# Altium integrated library Altera APEX 20K.IntLib: 93 symbols (part 2 of 14)
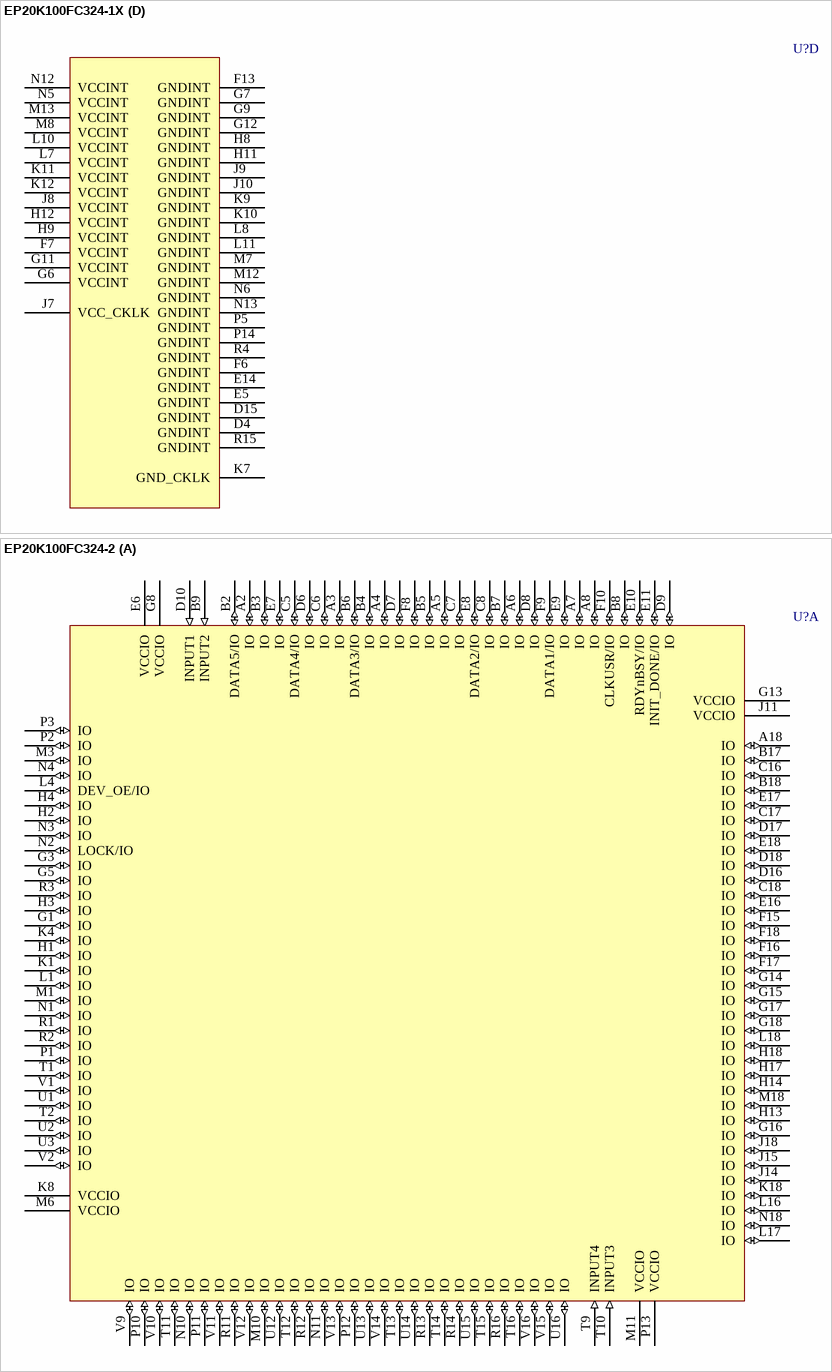
[diagram p203: symbols EP20K100FC324-1X to EP20K100FC324-2]

## EP20K100FC324-1X
designator U?
APEX 20K100 PLD with PLLs, 324-Pin FBGA, Commercial Grade, Speed Grade 1; Published: 17-Jul-2002; LatestRevisionDate: 13-Apr-2006; LatestRevisionNote: IPC-7351 Footprint Added.; DatasheetVersion: ver5.1, Mar-2004; PackageVersion: ver16.0, Dec-2009; PackageReference: FBGA324; Publisher: Altium Limited; PackageDescription: 324-Ball FineLine Ball Grid Array (FBGA324) - Wire Bond; Code_JEDEC: MS-034-AAG-1; Code_IPC: BGA100P18X18-324; ComponentLink1Description: Manufacturer Link; ComponentLink1URL: http://www.altera.com/products/devices/apex/apx-index.html; ComponentLink2Description: Datasheet; ComponentLink2URL: http://www.altera.com/literature/ds/apex.pdf
footprint FBGA324 (BGA, 324-Leads, Body 19x19mm, Pitch 1mm)
3D model EP20K100-FBGA324 (324-Ball FineLine Ball Grid Array (FBGA324) - Wire Bond)
part A pins: A2 IO (io), A3 IO (io), A4 IO (io), A5 IO (io), A6 IO (io), A7 IO (io), A8 IO (io), A18 IO (io), B2 DATA5/IO (io), B3 IO (io), B4 IO (io), B5 IO (io), B6 DATA3/IO (io), B7 IO (io), B8 IO (io), B9 INPUT2 (in), B17 IO (io), B18 IO (io), C5 DATA4/IO (io), C6 IO (io), C7 IO (io), C8 IO (io), C16 IO (io), C17 IO (io), C18 IO (io), D6 IO (io), D7 IO (io), D8 IO (io), D9 IO (io), D10 INPUT1 (in), D16 IO (io), D17 IO (io), D18 IO (io), E6 VCCIO (power), E7 IO (io), E8 DATA2/IO (io), E9 IO (io), E10 RDYnBSY/IO (io), E11 INIT_DONE/IO (io), E16 IO (io), E17 IO (io), E18 IO (io), F8 IO (io), F9 DATA1/IO (io), F10 CLKUSR/IO (io), F15 IO (io), F16 IO (io), F17 IO (io), F18 IO (io), G1 IO (io), G3 IO (io), G5 IO (io), G8 VCCIO (power), G13 VCCIO (power), G14 IO (io), G15 IO (io), G16 IO (io), G17 IO (io), G18 IO (io), H1 IO (io), H2 IO (io), H3 IO (io), H4 IO (io), H13 IO (io), H14 IO (io), H17 IO (io), H18 IO (io), J11 VCCIO (power), J14 IO (io), J15 IO (io), J18 IO (io), K1 IO (io), K4 IO (io), K8 VCCIO (power), K18 IO (io), L1 IO (io), L4 DEV_OE/IO (io), L16 IO (io), L17 IO (io), L18 IO (io), M1 IO (io), M3 IO (io), M6 VCCIO (power), M10 IO (io), M11 VCCIO (power), M18 IO (io), N1 IO (io), N2 LOCK/IO (io), N3 IO (io), N4 IO (io), N10 IO (io), N11 IO (io), N18 IO (io), P1 IO (io), P2 IO (io), P3 IO (io), P10 IO (io), P11 IO (io), P12 IO (io), P13 VCCIO (power), R1 IO (io), R2 IO (io), R3 IO (io), R11 IO (io), R12 IO (io), R13 IO (io), R14 IO (io), R16 IO (io), T1 IO (io), T2 IO (io), T9 INPUT4 (in), T10 INPUT3 (in), T11 IO (io), T12 IO (io), T13 IO (io), T14 IO (io), T15 IO (io), T16 IO (io), U1 IO (io), U2 IO (io), U3 IO (io), U12 IO (io), U13 IO (io), U14 IO (io), U15 IO (io), U16 IO (io), V1 IO (io), V2 IO (io), V9 IO (io), V10 IO (io), V11 IO (io), V12 IO (io), V13 IO (io), V14 IO (io), V15 IO (io), V16 IO (io)
part B pins: A1 IO (io), A9 IO (io), A10 IO (io), A11 IO (io), A12 IO (io), A13 IO (io), A14 IO (io), A15 IO (io), A16 IO (io), A17 IO (io), B1 IO (io), B11 IO (io), B12 IO (io), B13 IO (io), B14 IO (io), B15 IO (io), B16 IO (io), C1 IO (io), C2 IO (io), C3 IO (io), C4 IO (io), C11 IO (io), C12 IO (io), C13 IO (io), C14 IO (io), C15 IO (io), D1 IO (io), D2 IO (io), D3 IO (io), D5 IO (io), D11 IO (io), D12 IO (io), D13 IO (io), D14 IO (io), E1 IO (io), E2 IO (io), E3 IO (io), E4 IO (io), E12 IO (io), E13 IO (io), E15 IO (io), F1 IO (io), F2 IO (io), F3 IO (io), F4 IO (io), F5 VCCIO (power), F11 IO (io), F12 VCCIO (power), F14 IO (io), G2 IO (io), G4 DATA6/IO (io), G10 IO (io), H5 nCS/IO (io), H6 DATA7/IO (io), H7 VCCIO (power), H10 VCCIO (power), H15 IO (io), H16 IO (io), J1 IO (io), J4 CLK2 (in), J5 IO (io), J6 nRS/IO (io), J12 IO (io), J13 IO (io), K5 nWS/IO (io), K6 IO (io), K13 IO (io), K14 IO (io), K15 IO (io), K16 CLK1 (in), L2 IO (io), L3 IO (io), L5 DEV_CLRn/IO (io), L6 IO (io), L9 VCCIO (power), L12 VCCIO (power), L13 IO (io), L14 IO (io), L15 IO (io), M2 CS/IO (io), M4 IO (io), M5 IO (io), M9 IO (io), M14 IO (io), M15 IO (io), M16 IO (io), M17 IO (io), N7 VCCIO (power), N8 IO (io), N9 IO (io), N14 VCCIO (power), N15 IO (io), N16 IO (io), N17 IO (io), P4 IO (io), P6 VCCIO (power), P7 IO (io), P8 IO (io), P9 IO (io), P15 IO (io), P16 IO (io), P17 IO (io), P18 IO (io), R5 IO (io), R6 IO (io), R7 IO (io), R8 IO (io), R9 IO (io), R10 IO (io), R17 IO (io), R18 IO (io), T3 IO (io), T4 IO (io), T5 IO (io), T6 IO (io), T7 IO (io), T8 IO (io), T17 IO (io), T18 IO (io), U4 IO (io), U5 IO (io), U6 IO (io), U7 IO (io), U17 IO (io), U18 IO (io), V3 IO (io), V4 IO (io), V5 IO (io), V6 IO (io), V7 IO (io), V8 IO (io), V17 IO (io), V18 IO (io)
part C pins: B10 TRST (in), C9 TDO (out), C10 nCEO (out), J2 DATA0 (in), J3 DCLK (in), J16 MSEL1 (in), J17 MSEL0 (in), K2 nCE (in), K3 TDI (in), K17 nCONFIG (in), U8 CONF_DONE (in), U9 nSTATUS (in), U10 TCK (in), U11 TMS (in)
part D pins: D4 GNDINT (power), D15 GNDINT (power), E5 GNDINT (power), E14 GNDINT (power), F6 GNDINT (power), F7 VCCINT (power), F13 GNDINT (power), G6 VCCINT (power), G7 GNDINT (power), G9 GNDINT (power), G11 VCCINT (power), G12 GNDINT (power), H8 GNDINT (power), H9 VCCINT (power), H11 GNDINT (power), H12 VCCINT (power), J7 VCC_CKLK (power), J8 VCCINT (power), J9 GNDINT (power), J10 GNDINT (power), K7 GND_CKLK (power), K9 GNDINT (power), K10 GNDINT (power), K11 VCCINT (power), K12 VCCINT (power), L7 VCCINT (power), L8 GNDINT (power), L10 VCCINT (power), L11 GNDINT (power), M7 GNDINT (power), M8 VCCINT (power), M12 GNDINT (power), M13 VCCINT (power), N5 VCCINT (power), N6 GNDINT (power), N12 VCCINT (power), N13 GNDINT (power), P5 GNDINT (power), P14 GNDINT (power), R4 GNDINT (power), R15 GNDINT (power)

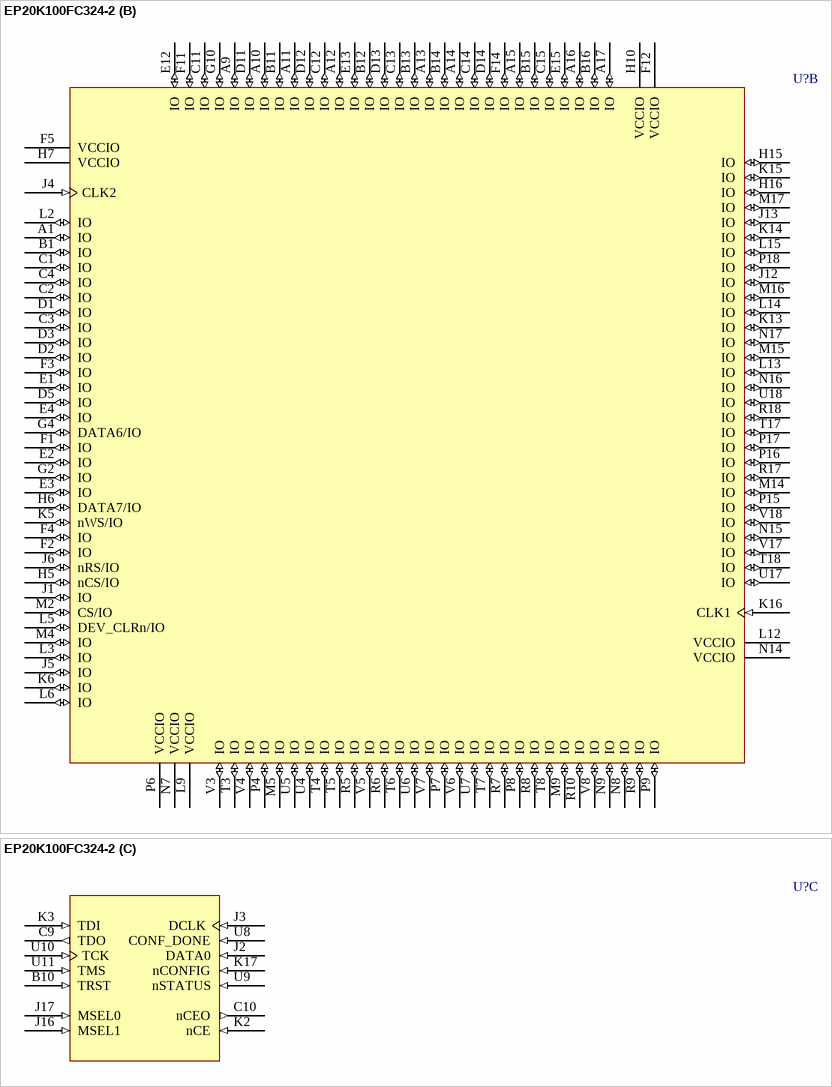
[diagram p13: symbol EP20K100FC324-2]

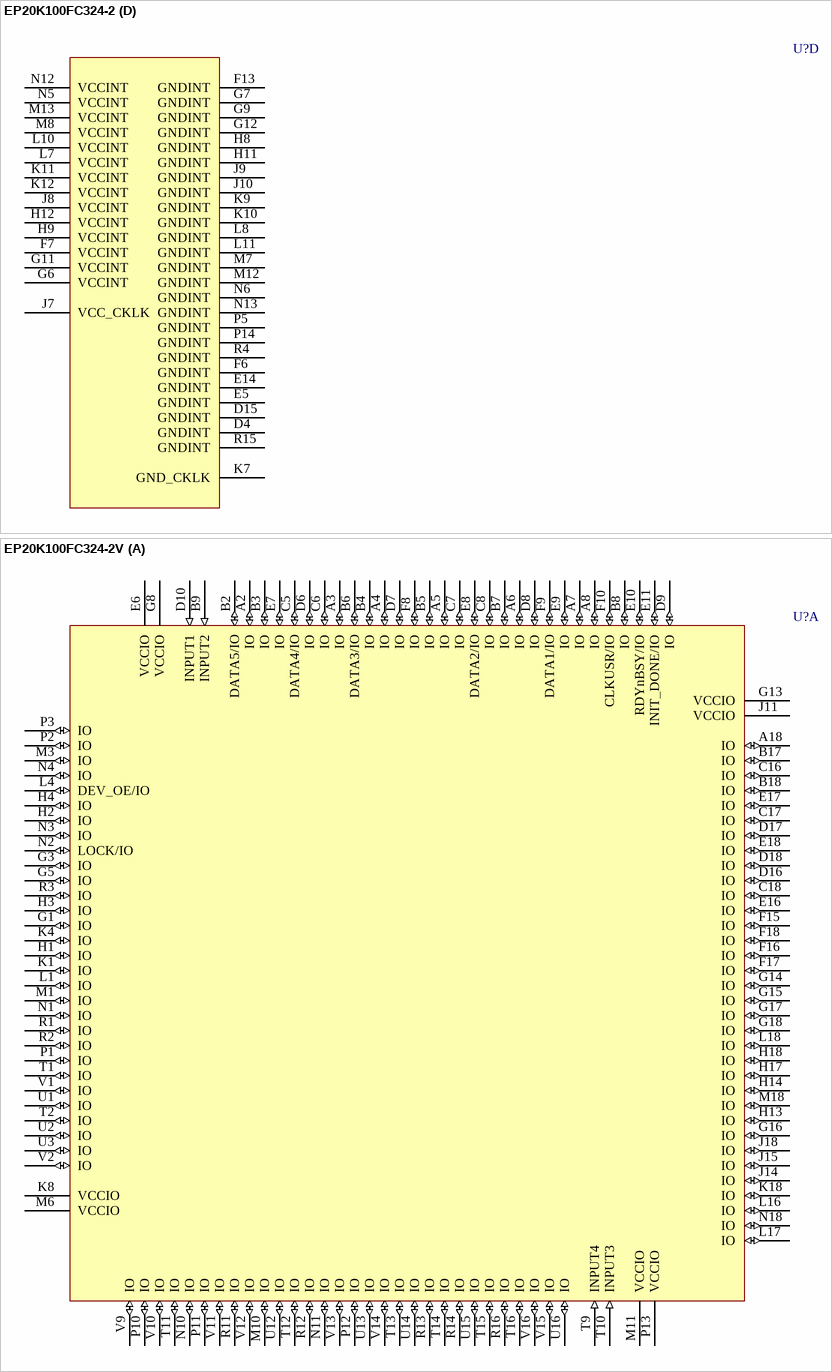
[diagram p14: symbols EP20K100FC324-2 to EP20K100FC324-2V]

## EP20K100FC324-2
designator U?
APEX 20K100 PLD, 324-Pin FBGA, Commercial Grade, Speed Grade 2; Published: 17-Jul-2002; LatestRevisionDate: 13-Apr-2006; LatestRevisionNote: IPC-7351 Footprint Added.; DatasheetVersion: ver5.1, Mar-2004; PackageVersion: ver16.0, Dec-2009; PackageReference: FBGA324; Publisher: Altium Limited; PackageDescription: 324-Ball FineLine Ball Grid Array (FBGA324) - Wire Bond; Code_JEDEC: MS-034-AAG-1; Code_IPC: BGA100P18X18-324; ComponentLink1Description: Manufacturer Link; ComponentLink1URL: http://www.altera.com/products/devices/apex/apx-index.html; ComponentLink2Description: Datasheet; ComponentLink2URL: http://www.altera.com/literature/ds/apex.pdf
footprint FBGA324 (BGA, 324-Leads, Body 19x19mm, Pitch 1mm)
3D model EP20K100-FBGA324 (324-Ball FineLine Ball Grid Array (FBGA324) - Wire Bond)
part A pins: A2 IO (io), A3 IO (io), A4 IO (io), A5 IO (io), A6 IO (io), A7 IO (io), A8 IO (io), A18 IO (io), B2 DATA5/IO (io), B3 IO (io), B4 IO (io), B5 IO (io), B6 DATA3/IO (io), B7 IO (io), B8 IO (io), B9 INPUT2 (in), B17 IO (io), B18 IO (io), C5 DATA4/IO (io), C6 IO (io), C7 IO (io), C8 IO (io), C16 IO (io), C17 IO (io), C18 IO (io), D6 IO (io), D7 IO (io), D8 IO (io), D9 IO (io), D10 INPUT1 (in), D16 IO (io), D17 IO (io), D18 IO (io), E6 VCCIO (power), E7 IO (io), E8 DATA2/IO (io), E9 IO (io), E10 RDYnBSY/IO (io), E11 INIT_DONE/IO (io), E16 IO (io), E17 IO (io), E18 IO (io), F8 IO (io), F9 DATA1/IO (io), F10 CLKUSR/IO (io), F15 IO (io), F16 IO (io), F17 IO (io), F18 IO (io), G1 IO (io), G3 IO (io), G5 IO (io), G8 VCCIO (power), G13 VCCIO (power), G14 IO (io), G15 IO (io), G16 IO (io), G17 IO (io), G18 IO (io), H1 IO (io), H2 IO (io), H3 IO (io), H4 IO (io), H13 IO (io), H14 IO (io), H17 IO (io), H18 IO (io), J11 VCCIO (power), J14 IO (io), J15 IO (io), J18 IO (io), K1 IO (io), K4 IO (io), K8 VCCIO (power), K18 IO (io), L1 IO (io), L4 DEV_OE/IO (io), L16 IO (io), L17 IO (io), L18 IO (io), M1 IO (io), M3 IO (io), M6 VCCIO (power), M10 IO (io), M11 VCCIO (power), M18 IO (io), N1 IO (io), N2 LOCK/IO (io), N3 IO (io), N4 IO (io), N10 IO (io), N11 IO (io), N18 IO (io), P1 IO (io), P2 IO (io), P3 IO (io), P10 IO (io), P11 IO (io), P12 IO (io), P13 VCCIO (power), R1 IO (io), R2 IO (io), R3 IO (io), R11 IO (io), R12 IO (io), R13 IO (io), R14 IO (io), R16 IO (io), T1 IO (io), T2 IO (io), T9 INPUT4 (in), T10 INPUT3 (in), T11 IO (io), T12 IO (io), T13 IO (io), T14 IO (io), T15 IO (io), T16 IO (io), U1 IO (io), U2 IO (io), U3 IO (io), U12 IO (io), U13 IO (io), U14 IO (io), U15 IO (io), U16 IO (io), V1 IO (io), V2 IO (io), V9 IO (io), V10 IO (io), V11 IO (io), V12 IO (io), V13 IO (io), V14 IO (io), V15 IO (io), V16 IO (io)
part B pins: A1 IO (io), A9 IO (io), A10 IO (io), A11 IO (io), A12 IO (io), A13 IO (io), A14 IO (io), A15 IO (io), A16 IO (io), A17 IO (io), B1 IO (io), B11 IO (io), B12 IO (io), B13 IO (io), B14 IO (io), B15 IO (io), B16 IO (io), C1 IO (io), C2 IO (io), C3 IO (io), C4 IO (io), C11 IO (io), C12 IO (io), C13 IO (io), C14 IO (io), C15 IO (io), D1 IO (io), D2 IO (io), D3 IO (io), D5 IO (io), D11 IO (io), D12 IO (io), D13 IO (io), D14 IO (io), E1 IO (io), E2 IO (io), E3 IO (io), E4 IO (io), E12 IO (io), E13 IO (io), E15 IO (io), F1 IO (io), F2 IO (io), F3 IO (io), F4 IO (io), F5 VCCIO (power), F11 IO (io), F12 VCCIO (power), F14 IO (io), G2 IO (io), G4 DATA6/IO (io), G10 IO (io), H5 nCS/IO (io), H6 DATA7/IO (io), H7 VCCIO (power), H10 VCCIO (power), H15 IO (io), H16 IO (io), J1 IO (io), J4 CLK2 (in), J5 IO (io), J6 nRS/IO (io), J12 IO (io), J13 IO (io), K5 nWS/IO (io), K6 IO (io), K13 IO (io), K14 IO (io), K15 IO (io), K16 CLK1 (in), L2 IO (io), L3 IO (io), L5 DEV_CLRn/IO (io), L6 IO (io), L9 VCCIO (power), L12 VCCIO (power), L13 IO (io), L14 IO (io), L15 IO (io), M2 CS/IO (io), M4 IO (io), M5 IO (io), M9 IO (io), M14 IO (io), M15 IO (io), M16 IO (io), M17 IO (io), N7 VCCIO (power), N8 IO (io), N9 IO (io), N14 VCCIO (power), N15 IO (io), N16 IO (io), N17 IO (io), P4 IO (io), P6 VCCIO (power), P7 IO (io), P8 IO (io), P9 IO (io), P15 IO (io), P16 IO (io), P17 IO (io), P18 IO (io), R5 IO (io), R6 IO (io), R7 IO (io), R8 IO (io), R9 IO (io), R10 IO (io), R17 IO (io), R18 IO (io), T3 IO (io), T4 IO (io), T5 IO (io), T6 IO (io), T7 IO (io), T8 IO (io), T17 IO (io), T18 IO (io), U4 IO (io), U5 IO (io), U6 IO (io), U7 IO (io), U17 IO (io), U18 IO (io), V3 IO (io), V4 IO (io), V5 IO (io), V6 IO (io), V7 IO (io), V8 IO (io), V17 IO (io), V18 IO (io)
part C pins: B10 TRST (in), C9 TDO (out), C10 nCEO (out), J2 DATA0 (in), J3 DCLK (in), J16 MSEL1 (in), J17 MSEL0 (in), K2 nCE (in), K3 TDI (in), K17 nCONFIG (in), U8 CONF_DONE (in), U9 nSTATUS (in), U10 TCK (in), U11 TMS (in)
part D pins: D4 GNDINT (power), D15 GNDINT (power), E5 GNDINT (power), E14 GNDINT (power), F6 GNDINT (power), F7 VCCINT (power), F13 GNDINT (power), G6 VCCINT (power), G7 GNDINT (power), G9 GNDINT (power), G11 VCCINT (power), G12 GNDINT (power), H8 GNDINT (power), H9 VCCINT (power), H11 GNDINT (power), H12 VCCINT (power), J7 VCC_CKLK (power), J8 VCCINT (power), J9 GNDINT (power), J10 GNDINT (power), K7 GND_CKLK (power), K9 GNDINT (power), K10 GNDINT (power), K11 VCCINT (power), K12 VCCINT (power), L7 VCCINT (power), L8 GNDINT (power), L10 VCCINT (power), L11 GNDINT (power), M7 GNDINT (power), M8 VCCINT (power), M12 GNDINT (power), M13 VCCINT (power), N5 VCCINT (power), N6 GNDINT (power), N12 VCCINT (power), N13 GNDINT (power), P5 GNDINT (power), P14 GNDINT (power), R4 GNDINT (power), R15 GNDINT (power)

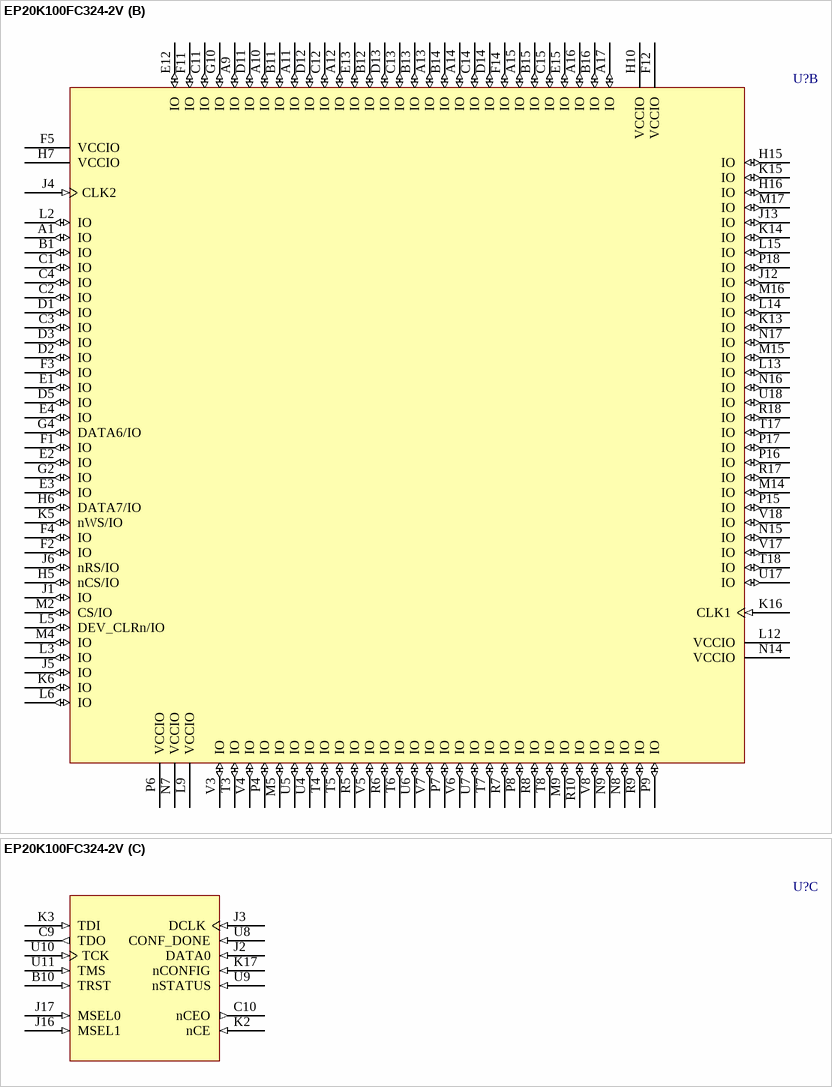
[diagram p15: symbol EP20K100FC324-2V]

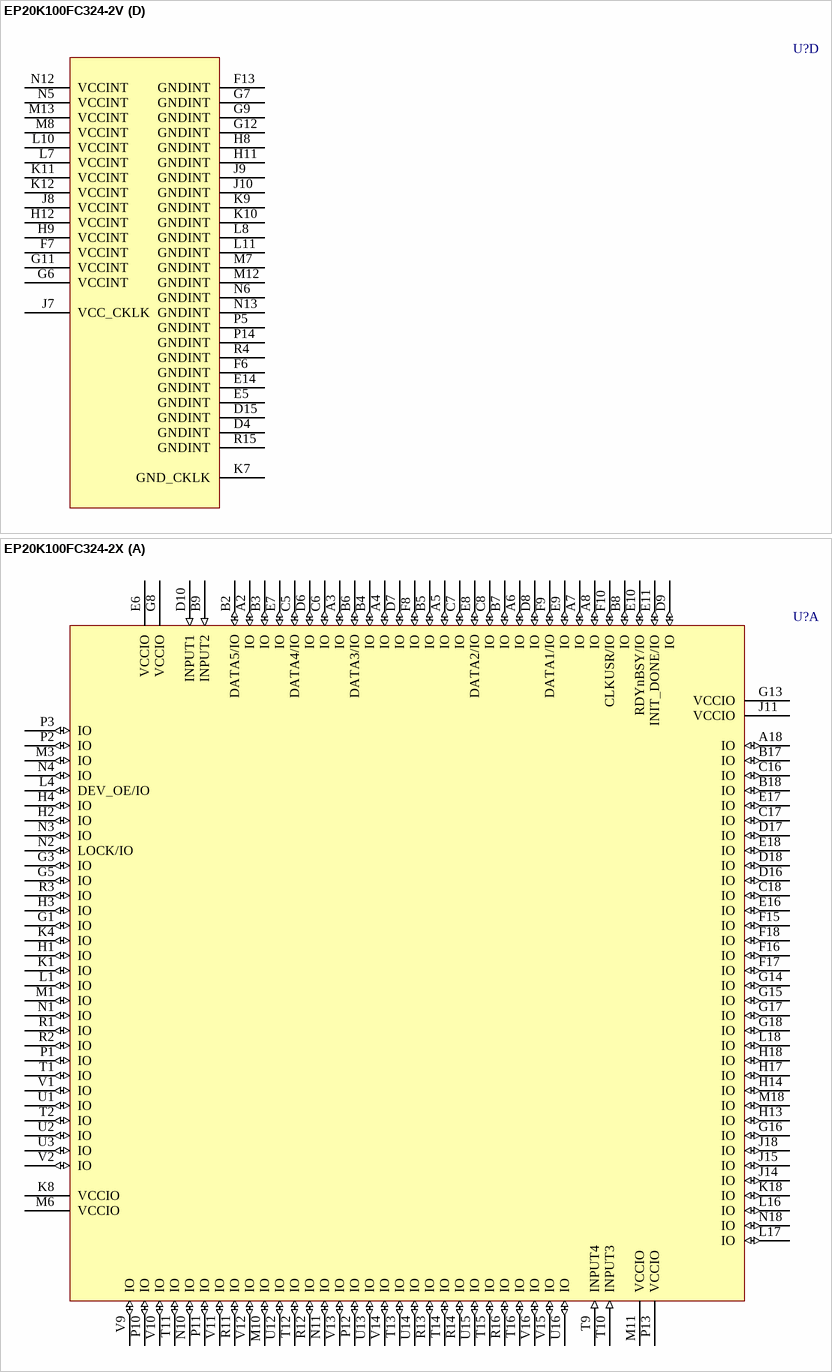
[diagram p16: symbols EP20K100FC324-2V to EP20K100FC324-2X]

## EP20K100FC324-2V
designator U?
APEX 20K100 PLD with 5 V tolerant inputs, 324-Pin FBGA, Commercial Grade, Speed Grade 2; ComponentAvailability: Last order accepted - 22-Jul-2005; Published: 17-Jul-2002; LatestRevisionDate: 13-Apr-2006; LatestRevisionNote: IPC-7351 Footprint Added.; DatasheetVersion: ver5.1, Mar-2004; PackageVersion: ver16.0, Dec-2009; PackageReference: FBGA324; Publisher: Altium Limited; PackageDescription: 324-Ball FineLine Ball Grid Array (FBGA324) - Wire Bond; Code_JEDEC: MS-034-AAG-1; Code_IPC: BGA100P18X18-324; ComponentLink1Description: Manufacturer Link; ComponentLink1URL: http://www.altera.com/products/devices/apex/apx-index.html; ComponentLink2Description: Datasheet; ComponentLink2URL: http://www.altera.com/literature/ds/apex.pdf; ComponentLink3Description: Discontinuation Notice; ComponentLink3URL: http://www.altera.com/literature/pcn/pdn0401.pdf
footprint FBGA324 (BGA, 324-Leads, Body 19x19mm, Pitch 1mm)
3D model EP20K100-FBGA324 (324-Ball FineLine Ball Grid Array (FBGA324) - Wire Bond)
part A pins: A2 IO (io), A3 IO (io), A4 IO (io), A5 IO (io), A6 IO (io), A7 IO (io), A8 IO (io), A18 IO (io), B2 DATA5/IO (io), B3 IO (io), B4 IO (io), B5 IO (io), B6 DATA3/IO (io), B7 IO (io), B8 IO (io), B9 INPUT2 (in), B17 IO (io), B18 IO (io), C5 DATA4/IO (io), C6 IO (io), C7 IO (io), C8 IO (io), C16 IO (io), C17 IO (io), C18 IO (io), D6 IO (io), D7 IO (io), D8 IO (io), D9 IO (io), D10 INPUT1 (in), D16 IO (io), D17 IO (io), D18 IO (io), E6 VCCIO (power), E7 IO (io), E8 DATA2/IO (io), E9 IO (io), E10 RDYnBSY/IO (io), E11 INIT_DONE/IO (io), E16 IO (io), E17 IO (io), E18 IO (io), F8 IO (io), F9 DATA1/IO (io), F10 CLKUSR/IO (io), F15 IO (io), F16 IO (io), F17 IO (io), F18 IO (io), G1 IO (io), G3 IO (io), G5 IO (io), G8 VCCIO (power), G13 VCCIO (power), G14 IO (io), G15 IO (io), G16 IO (io), G17 IO (io), G18 IO (io), H1 IO (io), H2 IO (io), H3 IO (io), H4 IO (io), H13 IO (io), H14 IO (io), H17 IO (io), H18 IO (io), J11 VCCIO (power), J14 IO (io), J15 IO (io), J18 IO (io), K1 IO (io), K4 IO (io), K8 VCCIO (power), K18 IO (io), L1 IO (io), L4 DEV_OE/IO (io), L16 IO (io), L17 IO (io), L18 IO (io), M1 IO (io), M3 IO (io), M6 VCCIO (power), M10 IO (io), M11 VCCIO (power), M18 IO (io), N1 IO (io), N2 LOCK/IO (io), N3 IO (io), N4 IO (io), N10 IO (io), N11 IO (io), N18 IO (io), P1 IO (io), P2 IO (io), P3 IO (io), P10 IO (io), P11 IO (io), P12 IO (io), P13 VCCIO (power), R1 IO (io), R2 IO (io), R3 IO (io), R11 IO (io), R12 IO (io), R13 IO (io), R14 IO (io), R16 IO (io), T1 IO (io), T2 IO (io), T9 INPUT4 (in), T10 INPUT3 (in), T11 IO (io), T12 IO (io), T13 IO (io), T14 IO (io), T15 IO (io), T16 IO (io), U1 IO (io), U2 IO (io), U3 IO (io), U12 IO (io), U13 IO (io), U14 IO (io), U15 IO (io), U16 IO (io), V1 IO (io), V2 IO (io), V9 IO (io), V10 IO (io), V11 IO (io), V12 IO (io), V13 IO (io), V14 IO (io), V15 IO (io), V16 IO (io)
part B pins: A1 IO (io), A9 IO (io), A10 IO (io), A11 IO (io), A12 IO (io), A13 IO (io), A14 IO (io), A15 IO (io), A16 IO (io), A17 IO (io), B1 IO (io), B11 IO (io), B12 IO (io), B13 IO (io), B14 IO (io), B15 IO (io), B16 IO (io), C1 IO (io), C2 IO (io), C3 IO (io), C4 IO (io), C11 IO (io), C12 IO (io), C13 IO (io), C14 IO (io), C15 IO (io), D1 IO (io), D2 IO (io), D3 IO (io), D5 IO (io), D11 IO (io), D12 IO (io), D13 IO (io), D14 IO (io), E1 IO (io), E2 IO (io), E3 IO (io), E4 IO (io), E12 IO (io), E13 IO (io), E15 IO (io), F1 IO (io), F2 IO (io), F3 IO (io), F4 IO (io), F5 VCCIO (power), F11 IO (io), F12 VCCIO (power), F14 IO (io), G2 IO (io), G4 DATA6/IO (io), G10 IO (io), H5 nCS/IO (io), H6 DATA7/IO (io), H7 VCCIO (power), H10 VCCIO (power), H15 IO (io), H16 IO (io), J1 IO (io), J4 CLK2 (in), J5 IO (io), J6 nRS/IO (io), J12 IO (io), J13 IO (io), K5 nWS/IO (io), K6 IO (io), K13 IO (io), K14 IO (io), K15 IO (io), K16 CLK1 (in), L2 IO (io), L3 IO (io), L5 DEV_CLRn/IO (io), L6 IO (io), L9 VCCIO (power), L12 VCCIO (power), L13 IO (io), L14 IO (io), L15 IO (io), M2 CS/IO (io), M4 IO (io), M5 IO (io), M9 IO (io), M14 IO (io), M15 IO (io), M16 IO (io), M17 IO (io), N7 VCCIO (power), N8 IO (io), N9 IO (io), N14 VCCIO (power), N15 IO (io), N16 IO (io), N17 IO (io), P4 IO (io), P6 VCCIO (power), P7 IO (io), P8 IO (io), P9 IO (io), P15 IO (io), P16 IO (io), P17 IO (io), P18 IO (io), R5 IO (io), R6 IO (io), R7 IO (io), R8 IO (io), R9 IO (io), R10 IO (io), R17 IO (io), R18 IO (io), T3 IO (io), T4 IO (io), T5 IO (io), T6 IO (io), T7 IO (io), T8 IO (io), T17 IO (io), T18 IO (io), U4 IO (io), U5 IO (io), U6 IO (io), U7 IO (io), U17 IO (io), U18 IO (io), V3 IO (io), V4 IO (io), V5 IO (io), V6 IO (io), V7 IO (io), V8 IO (io), V17 IO (io), V18 IO (io)
part C pins: B10 TRST (in), C9 TDO (out), C10 nCEO (out), J2 DATA0 (in), J3 DCLK (in), J16 MSEL1 (in), J17 MSEL0 (in), K2 nCE (in), K3 TDI (in), K17 nCONFIG (in), U8 CONF_DONE (in), U9 nSTATUS (in), U10 TCK (in), U11 TMS (in)
part D pins: D4 GNDINT (power), D15 GNDINT (power), E5 GNDINT (power), E14 GNDINT (power), F6 GNDINT (power), F7 VCCINT (power), F13 GNDINT (power), G6 VCCINT (power), G7 GNDINT (power), G9 GNDINT (power), G11 VCCINT (power), G12 GNDINT (power), H8 GNDINT (power), H9 VCCINT (power), H11 GNDINT (power), H12 VCCINT (power), J7 VCC_CKLK (power), J8 VCCINT (power), J9 GNDINT (power), J10 GNDINT (power), K7 GND_CKLK (power), K9 GNDINT (power), K10 GNDINT (power), K11 VCCINT (power), K12 VCCINT (power), L7 VCCINT (power), L8 GNDINT (power), L10 VCCINT (power), L11 GNDINT (power), M7 GNDINT (power), M8 VCCINT (power), M12 GNDINT (power), M13 VCCINT (power), N5 VCCINT (power), N6 GNDINT (power), N12 VCCINT (power), N13 GNDINT (power), P5 GNDINT (power), P14 GNDINT (power), R4 GNDINT (power), R15 GNDINT (power)

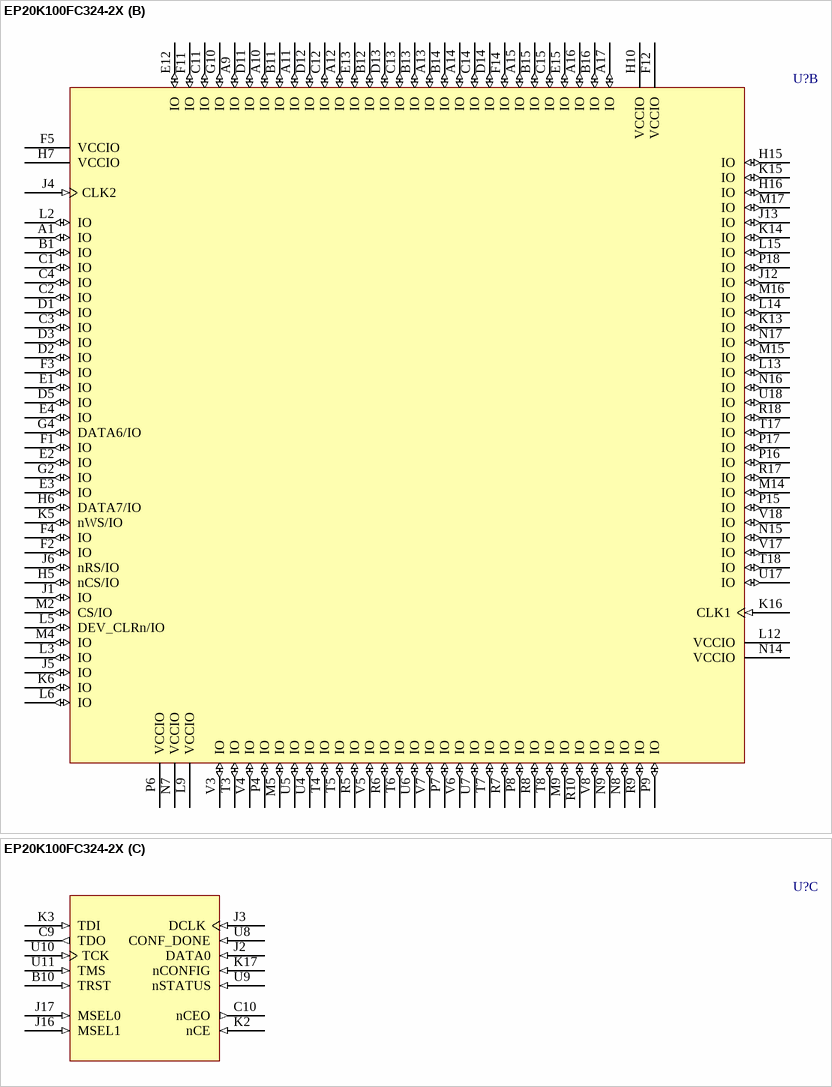
[diagram p17: symbol EP20K100FC324-2X]

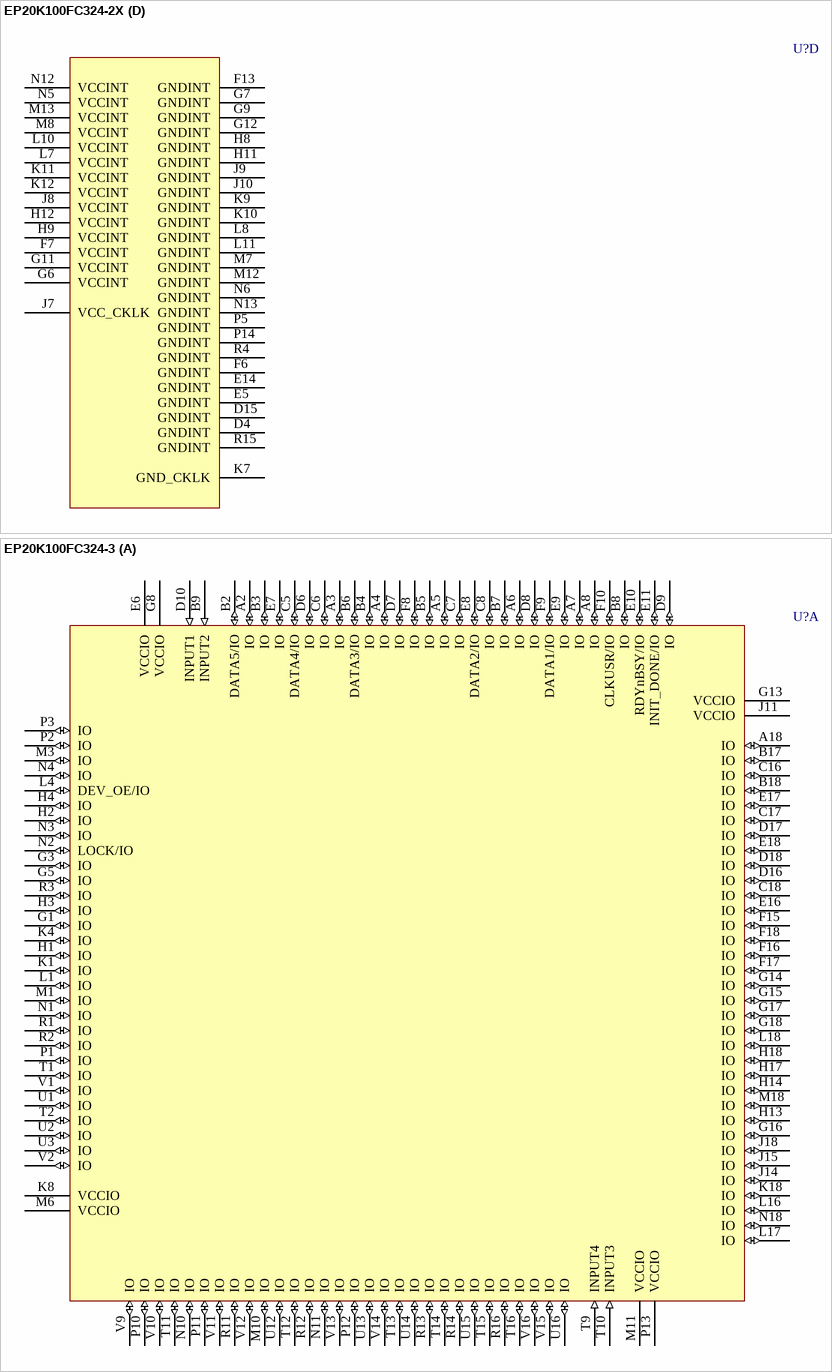
[diagram p18: symbols EP20K100FC324-2X to EP20K100FC324-3]

## EP20K100FC324-2X
designator U?
APEX 20K100 PLD with PLLs, 324-Pin FBGA, Commercial Grade, Speed Grade 2; Published: 17-Jul-2002; LatestRevisionDate: 13-Apr-2006; LatestRevisionNote: IPC-7351 Footprint Added.; DatasheetVersion: ver5.1, Mar-2004; PackageVersion: ver16.0, Dec-2009; PackageReference: FBGA324; Publisher: Altium Limited; PackageDescription: 324-Ball FineLine Ball Grid Array (FBGA324) - Wire Bond; Code_JEDEC: MS-034-AAG-1; Code_IPC: BGA100P18X18-324; ComponentLink1Description: Manufacturer Link; ComponentLink1URL: http://www.altera.com/products/devices/apex/apx-index.html; ComponentLink2Description: Datasheet; ComponentLink2URL: http://www.altera.com/literature/ds/apex.pdf
footprint FBGA324 (BGA, 324-Leads, Body 19x19mm, Pitch 1mm)
3D model EP20K100-FBGA324 (324-Ball FineLine Ball Grid Array (FBGA324) - Wire Bond)
part A pins: A2 IO (io), A3 IO (io), A4 IO (io), A5 IO (io), A6 IO (io), A7 IO (io), A8 IO (io), A18 IO (io), B2 DATA5/IO (io), B3 IO (io), B4 IO (io), B5 IO (io), B6 DATA3/IO (io), B7 IO (io), B8 IO (io), B9 INPUT2 (in), B17 IO (io), B18 IO (io), C5 DATA4/IO (io), C6 IO (io), C7 IO (io), C8 IO (io), C16 IO (io), C17 IO (io), C18 IO (io), D6 IO (io), D7 IO (io), D8 IO (io), D9 IO (io), D10 INPUT1 (in), D16 IO (io), D17 IO (io), D18 IO (io), E6 VCCIO (power), E7 IO (io), E8 DATA2/IO (io), E9 IO (io), E10 RDYnBSY/IO (io), E11 INIT_DONE/IO (io), E16 IO (io), E17 IO (io), E18 IO (io), F8 IO (io), F9 DATA1/IO (io), F10 CLKUSR/IO (io), F15 IO (io), F16 IO (io), F17 IO (io), F18 IO (io), G1 IO (io), G3 IO (io), G5 IO (io), G8 VCCIO (power), G13 VCCIO (power), G14 IO (io), G15 IO (io), G16 IO (io), G17 IO (io), G18 IO (io), H1 IO (io), H2 IO (io), H3 IO (io), H4 IO (io), H13 IO (io), H14 IO (io), H17 IO (io), H18 IO (io), J11 VCCIO (power), J14 IO (io), J15 IO (io), J18 IO (io), K1 IO (io), K4 IO (io), K8 VCCIO (power), K18 IO (io), L1 IO (io), L4 DEV_OE/IO (io), L16 IO (io), L17 IO (io), L18 IO (io), M1 IO (io), M3 IO (io), M6 VCCIO (power), M10 IO (io), M11 VCCIO (power), M18 IO (io), N1 IO (io), N2 LOCK/IO (io), N3 IO (io), N4 IO (io), N10 IO (io), N11 IO (io), N18 IO (io), P1 IO (io), P2 IO (io), P3 IO (io), P10 IO (io), P11 IO (io), P12 IO (io), P13 VCCIO (power), R1 IO (io), R2 IO (io), R3 IO (io), R11 IO (io), R12 IO (io), R13 IO (io), R14 IO (io), R16 IO (io), T1 IO (io), T2 IO (io), T9 INPUT4 (in), T10 INPUT3 (in), T11 IO (io), T12 IO (io), T13 IO (io), T14 IO (io), T15 IO (io), T16 IO (io), U1 IO (io), U2 IO (io), U3 IO (io), U12 IO (io), U13 IO (io), U14 IO (io), U15 IO (io), U16 IO (io), V1 IO (io), V2 IO (io), V9 IO (io), V10 IO (io), V11 IO (io), V12 IO (io), V13 IO (io), V14 IO (io), V15 IO (io), V16 IO (io)
part B pins: A1 IO (io), A9 IO (io), A10 IO (io), A11 IO (io), A12 IO (io), A13 IO (io), A14 IO (io), A15 IO (io), A16 IO (io), A17 IO (io), B1 IO (io), B11 IO (io), B12 IO (io), B13 IO (io), B14 IO (io), B15 IO (io), B16 IO (io), C1 IO (io), C2 IO (io), C3 IO (io), C4 IO (io), C11 IO (io), C12 IO (io), C13 IO (io), C14 IO (io), C15 IO (io), D1 IO (io), D2 IO (io), D3 IO (io), D5 IO (io), D11 IO (io), D12 IO (io), D13 IO (io), D14 IO (io), E1 IO (io), E2 IO (io), E3 IO (io), E4 IO (io), E12 IO (io), E13 IO (io), E15 IO (io), F1 IO (io), F2 IO (io), F3 IO (io), F4 IO (io), F5 VCCIO (power), F11 IO (io), F12 VCCIO (power), F14 IO (io), G2 IO (io), G4 DATA6/IO (io), G10 IO (io), H5 nCS/IO (io), H6 DATA7/IO (io), H7 VCCIO (power), H10 VCCIO (power), H15 IO (io), H16 IO (io), J1 IO (io), J4 CLK2 (in), J5 IO (io), J6 nRS/IO (io), J12 IO (io), J13 IO (io), K5 nWS/IO (io), K6 IO (io), K13 IO (io), K14 IO (io), K15 IO (io), K16 CLK1 (in), L2 IO (io), L3 IO (io), L5 DEV_CLRn/IO (io), L6 IO (io), L9 VCCIO (power), L12 VCCIO (power), L13 IO (io), L14 IO (io), L15 IO (io), M2 CS/IO (io), M4 IO (io), M5 IO (io), M9 IO (io), M14 IO (io), M15 IO (io), M16 IO (io), M17 IO (io), N7 VCCIO (power), N8 IO (io), N9 IO (io), N14 VCCIO (power), N15 IO (io), N16 IO (io), N17 IO (io), P4 IO (io), P6 VCCIO (power), P7 IO (io), P8 IO (io), P9 IO (io), P15 IO (io), P16 IO (io), P17 IO (io), P18 IO (io), R5 IO (io), R6 IO (io), R7 IO (io), R8 IO (io), R9 IO (io), R10 IO (io), R17 IO (io), R18 IO (io), T3 IO (io), T4 IO (io), T5 IO (io), T6 IO (io), T7 IO (io), T8 IO (io), T17 IO (io), T18 IO (io), U4 IO (io), U5 IO (io), U6 IO (io), U7 IO (io), U17 IO (io), U18 IO (io), V3 IO (io), V4 IO (io), V5 IO (io), V6 IO (io), V7 IO (io), V8 IO (io), V17 IO (io), V18 IO (io)
part C pins: B10 TRST (in), C9 TDO (out), C10 nCEO (out), J2 DATA0 (in), J3 DCLK (in), J16 MSEL1 (in), J17 MSEL0 (in), K2 nCE (in), K3 TDI (in), K17 nCONFIG (in), U8 CONF_DONE (in), U9 nSTATUS (in), U10 TCK (in), U11 TMS (in)
part D pins: D4 GNDINT (power), D15 GNDINT (power), E5 GNDINT (power), E14 GNDINT (power), F6 GNDINT (power), F7 VCCINT (power), F13 GNDINT (power), G6 VCCINT (power), G7 GNDINT (power), G9 GNDINT (power), G11 VCCINT (power), G12 GNDINT (power), H8 GNDINT (power), H9 VCCINT (power), H11 GNDINT (power), H12 VCCINT (power), J7 VCC_CKLK (power), J8 VCCINT (power), J9 GNDINT (power), J10 GNDINT (power), K7 GND_CKLK (power), K9 GNDINT (power), K10 GNDINT (power), K11 VCCINT (power), K12 VCCINT (power), L7 VCCINT (power), L8 GNDINT (power), L10 VCCINT (power), L11 GNDINT (power), M7 GNDINT (power), M8 VCCINT (power), M12 GNDINT (power), M13 VCCINT (power), N5 VCCINT (power), N6 GNDINT (power), N12 VCCINT (power), N13 GNDINT (power), P5 GNDINT (power), P14 GNDINT (power), R4 GNDINT (power), R15 GNDINT (power)

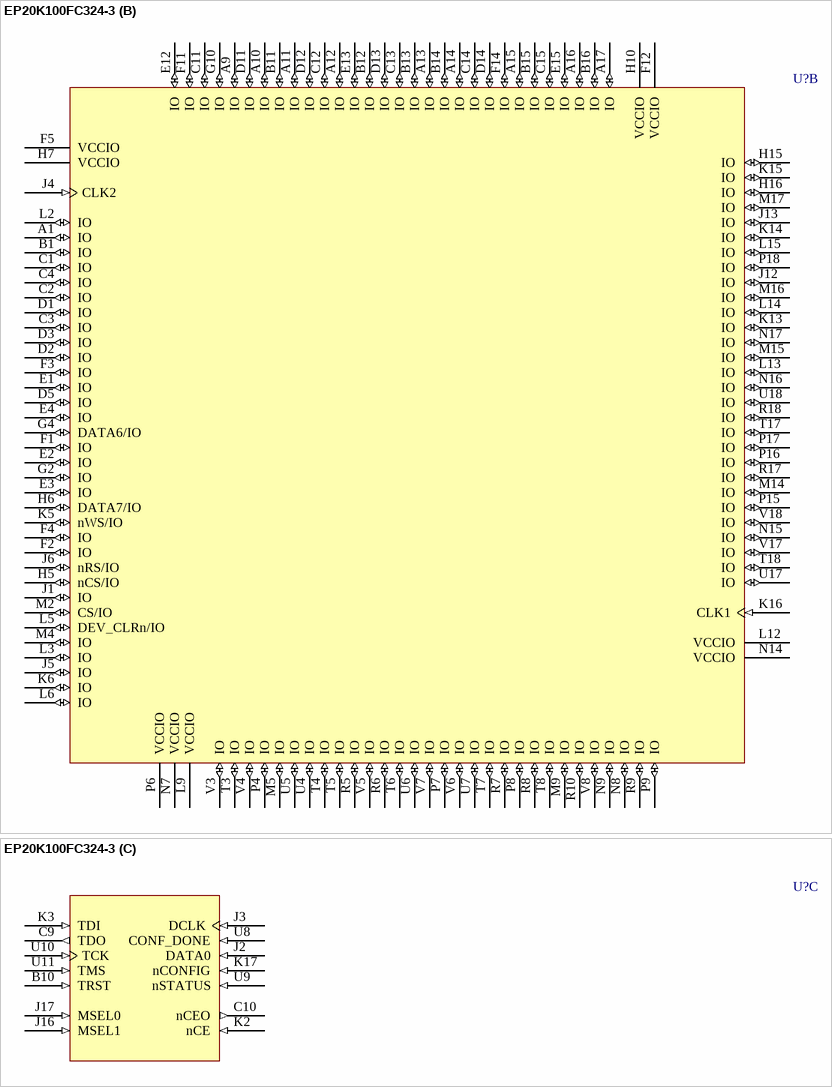
[diagram p19: symbol EP20K100FC324-3]

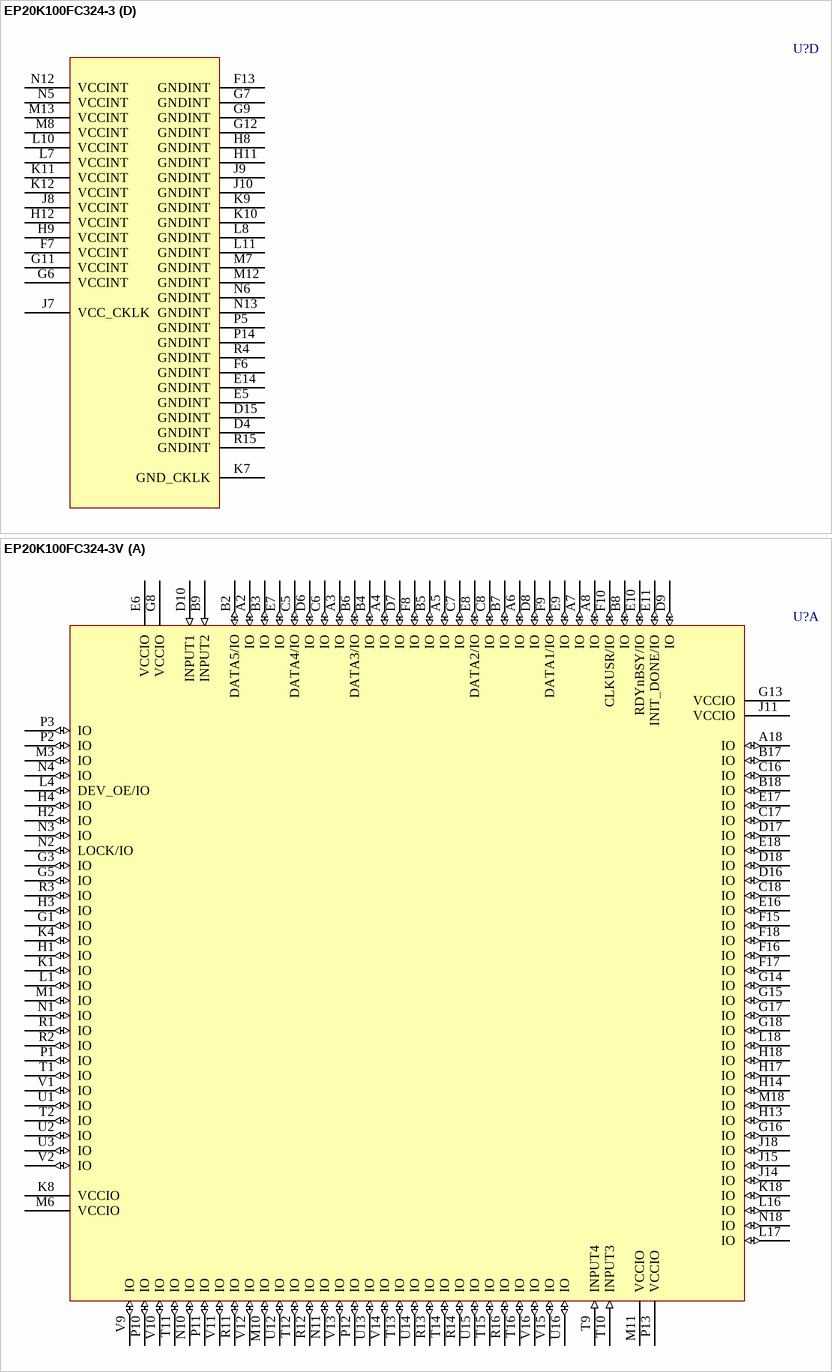
[diagram p20: symbols EP20K100FC324-3 to EP20K100FC324-3V]

## EP20K100FC324-3
designator U?
APEX 20K100 PLD, 324-Pin FBGA, Commercial Grade, Speed Grade 3; Published: 17-Jul-2002; LatestRevisionDate: 13-Apr-2006; LatestRevisionNote: IPC-7351 Footprint Added.; DatasheetVersion: ver5.1, Mar-2004; PackageVersion: ver16.0, Dec-2009; PackageReference: FBGA324; Publisher: Altium Limited; PackageDescription: 324-Ball FineLine Ball Grid Array (FBGA324) - Wire Bond; Code_JEDEC: MS-034-AAG-1; Code_IPC: BGA100P18X18-324; ComponentLink1Description: Manufacturer Link; ComponentLink1URL: http://www.altera.com/products/devices/apex/apx-index.html; ComponentLink2Description: Datasheet; ComponentLink2URL: http://www.altera.com/literature/ds/apex.pdf
footprint FBGA324 (BGA, 324-Leads, Body 19x19mm, Pitch 1mm)
3D model EP20K100-FBGA324 (324-Ball FineLine Ball Grid Array (FBGA324) - Wire Bond)
part A pins: A2 IO (io), A3 IO (io), A4 IO (io), A5 IO (io), A6 IO (io), A7 IO (io), A8 IO (io), A18 IO (io), B2 DATA5/IO (io), B3 IO (io), B4 IO (io), B5 IO (io), B6 DATA3/IO (io), B7 IO (io), B8 IO (io), B9 INPUT2 (in), B17 IO (io), B18 IO (io), C5 DATA4/IO (io), C6 IO (io), C7 IO (io), C8 IO (io), C16 IO (io), C17 IO (io), C18 IO (io), D6 IO (io), D7 IO (io), D8 IO (io), D9 IO (io), D10 INPUT1 (in), D16 IO (io), D17 IO (io), D18 IO (io), E6 VCCIO (power), E7 IO (io), E8 DATA2/IO (io), E9 IO (io), E10 RDYnBSY/IO (io), E11 INIT_DONE/IO (io), E16 IO (io), E17 IO (io), E18 IO (io), F8 IO (io), F9 DATA1/IO (io), F10 CLKUSR/IO (io), F15 IO (io), F16 IO (io), F17 IO (io), F18 IO (io), G1 IO (io), G3 IO (io), G5 IO (io), G8 VCCIO (power), G13 VCCIO (power), G14 IO (io), G15 IO (io), G16 IO (io), G17 IO (io), G18 IO (io), H1 IO (io), H2 IO (io), H3 IO (io), H4 IO (io), H13 IO (io), H14 IO (io), H17 IO (io), H18 IO (io), J11 VCCIO (power), J14 IO (io), J15 IO (io), J18 IO (io), K1 IO (io), K4 IO (io), K8 VCCIO (power), K18 IO (io), L1 IO (io), L4 DEV_OE/IO (io), L16 IO (io), L17 IO (io), L18 IO (io), M1 IO (io), M3 IO (io), M6 VCCIO (power), M10 IO (io), M11 VCCIO (power), M18 IO (io), N1 IO (io), N2 LOCK/IO (io), N3 IO (io), N4 IO (io), N10 IO (io), N11 IO (io), N18 IO (io), P1 IO (io), P2 IO (io), P3 IO (io), P10 IO (io), P11 IO (io), P12 IO (io), P13 VCCIO (power), R1 IO (io), R2 IO (io), R3 IO (io), R11 IO (io), R12 IO (io), R13 IO (io), R14 IO (io), R16 IO (io), T1 IO (io), T2 IO (io), T9 INPUT4 (in), T10 INPUT3 (in), T11 IO (io), T12 IO (io), T13 IO (io), T14 IO (io), T15 IO (io), T16 IO (io), U1 IO (io), U2 IO (io), U3 IO (io), U12 IO (io), U13 IO (io), U14 IO (io), U15 IO (io), U16 IO (io), V1 IO (io), V2 IO (io), V9 IO (io), V10 IO (io), V11 IO (io), V12 IO (io), V13 IO (io), V14 IO (io), V15 IO (io), V16 IO (io)
part B pins: A1 IO (io), A9 IO (io), A10 IO (io), A11 IO (io), A12 IO (io), A13 IO (io), A14 IO (io), A15 IO (io), A16 IO (io), A17 IO (io), B1 IO (io), B11 IO (io), B12 IO (io), B13 IO (io), B14 IO (io), B15 IO (io), B16 IO (io), C1 IO (io), C2 IO (io), C3 IO (io), C4 IO (io), C11 IO (io), C12 IO (io), C13 IO (io), C14 IO (io), C15 IO (io), D1 IO (io), D2 IO (io), D3 IO (io), D5 IO (io), D11 IO (io), D12 IO (io), D13 IO (io), D14 IO (io), E1 IO (io), E2 IO (io), E3 IO (io), E4 IO (io), E12 IO (io), E13 IO (io), E15 IO (io), F1 IO (io), F2 IO (io), F3 IO (io), F4 IO (io), F5 VCCIO (power), F11 IO (io), F12 VCCIO (power), F14 IO (io), G2 IO (io), G4 DATA6/IO (io), G10 IO (io), H5 nCS/IO (io), H6 DATA7/IO (io), H7 VCCIO (power), H10 VCCIO (power), H15 IO (io), H16 IO (io), J1 IO (io), J4 CLK2 (in), J5 IO (io), J6 nRS/IO (io), J12 IO (io), J13 IO (io), K5 nWS/IO (io), K6 IO (io), K13 IO (io), K14 IO (io), K15 IO (io), K16 CLK1 (in), L2 IO (io), L3 IO (io), L5 DEV_CLRn/IO (io), L6 IO (io), L9 VCCIO (power), L12 VCCIO (power), L13 IO (io), L14 IO (io), L15 IO (io), M2 CS/IO (io), M4 IO (io), M5 IO (io), M9 IO (io), M14 IO (io), M15 IO (io), M16 IO (io), M17 IO (io), N7 VCCIO (power), N8 IO (io), N9 IO (io), N14 VCCIO (power), N15 IO (io), N16 IO (io), N17 IO (io), P4 IO (io), P6 VCCIO (power), P7 IO (io), P8 IO (io), P9 IO (io), P15 IO (io), P16 IO (io), P17 IO (io), P18 IO (io), R5 IO (io), R6 IO (io), R7 IO (io), R8 IO (io), R9 IO (io), R10 IO (io), R17 IO (io), R18 IO (io), T3 IO (io), T4 IO (io), T5 IO (io), T6 IO (io), T7 IO (io), T8 IO (io), T17 IO (io), T18 IO (io), U4 IO (io), U5 IO (io), U6 IO (io), U7 IO (io), U17 IO (io), U18 IO (io), V3 IO (io), V4 IO (io), V5 IO (io), V6 IO (io), V7 IO (io), V8 IO (io), V17 IO (io), V18 IO (io)
part C pins: B10 TRST (in), C9 TDO (out), C10 nCEO (out), J2 DATA0 (in), J3 DCLK (in), J16 MSEL1 (in), J17 MSEL0 (in), K2 nCE (in), K3 TDI (in), K17 nCONFIG (in), U8 CONF_DONE (in), U9 nSTATUS (in), U10 TCK (in), U11 TMS (in)
part D pins: D4 GNDINT (power), D15 GNDINT (power), E5 GNDINT (power), E14 GNDINT (power), F6 GNDINT (power), F7 VCCINT (power), F13 GNDINT (power), G6 VCCINT (power), G7 GNDINT (power), G9 GNDINT (power), G11 VCCINT (power), G12 GNDINT (power), H8 GNDINT (power), H9 VCCINT (power), H11 GNDINT (power), H12 VCCINT (power), J7 VCC_CKLK (power), J8 VCCINT (power), J9 GNDINT (power), J10 GNDINT (power), K7 GND_CKLK (power), K9 GNDINT (power), K10 GNDINT (power), K11 VCCINT (power), K12 VCCINT (power), L7 VCCINT (power), L8 GNDINT (power), L10 VCCINT (power), L11 GNDINT (power), M7 GNDINT (power), M8 VCCINT (power), M12 GNDINT (power), M13 VCCINT (power), N5 VCCINT (power), N6 GNDINT (power), N12 VCCINT (power), N13 GNDINT (power), P5 GNDINT (power), P14 GNDINT (power), R4 GNDINT (power), R15 GNDINT (power)

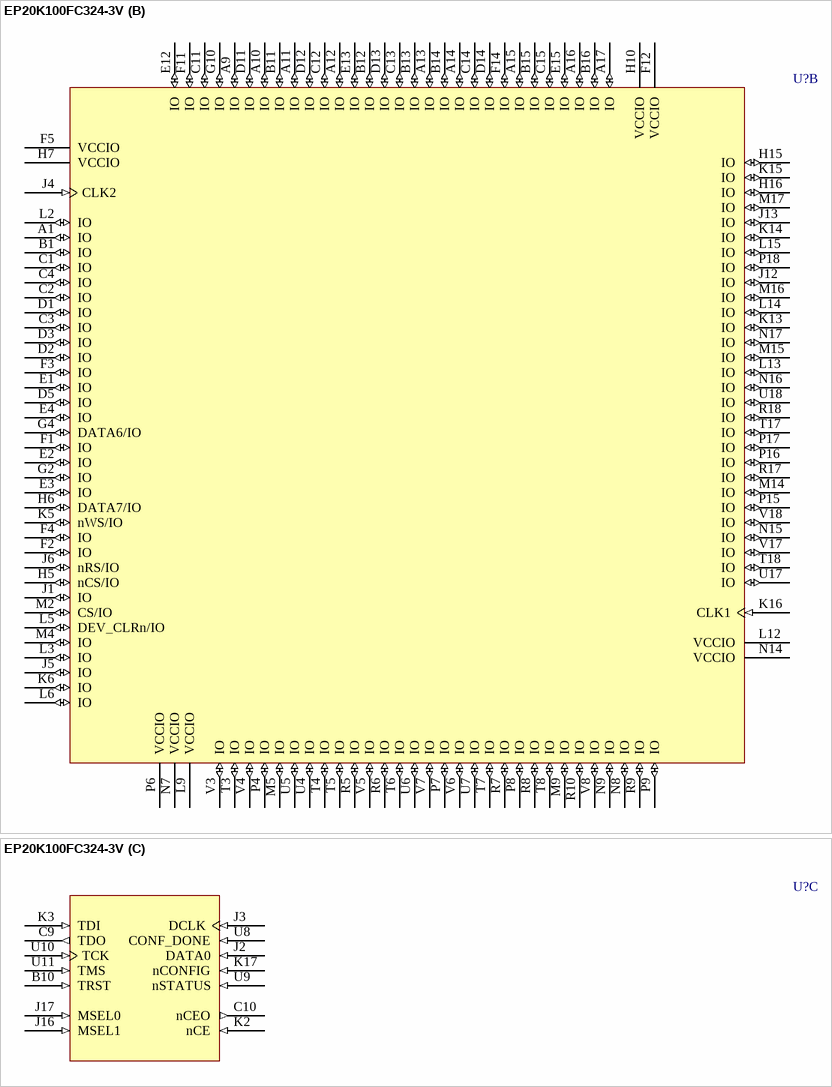
[diagram p21: symbol EP20K100FC324-3V]

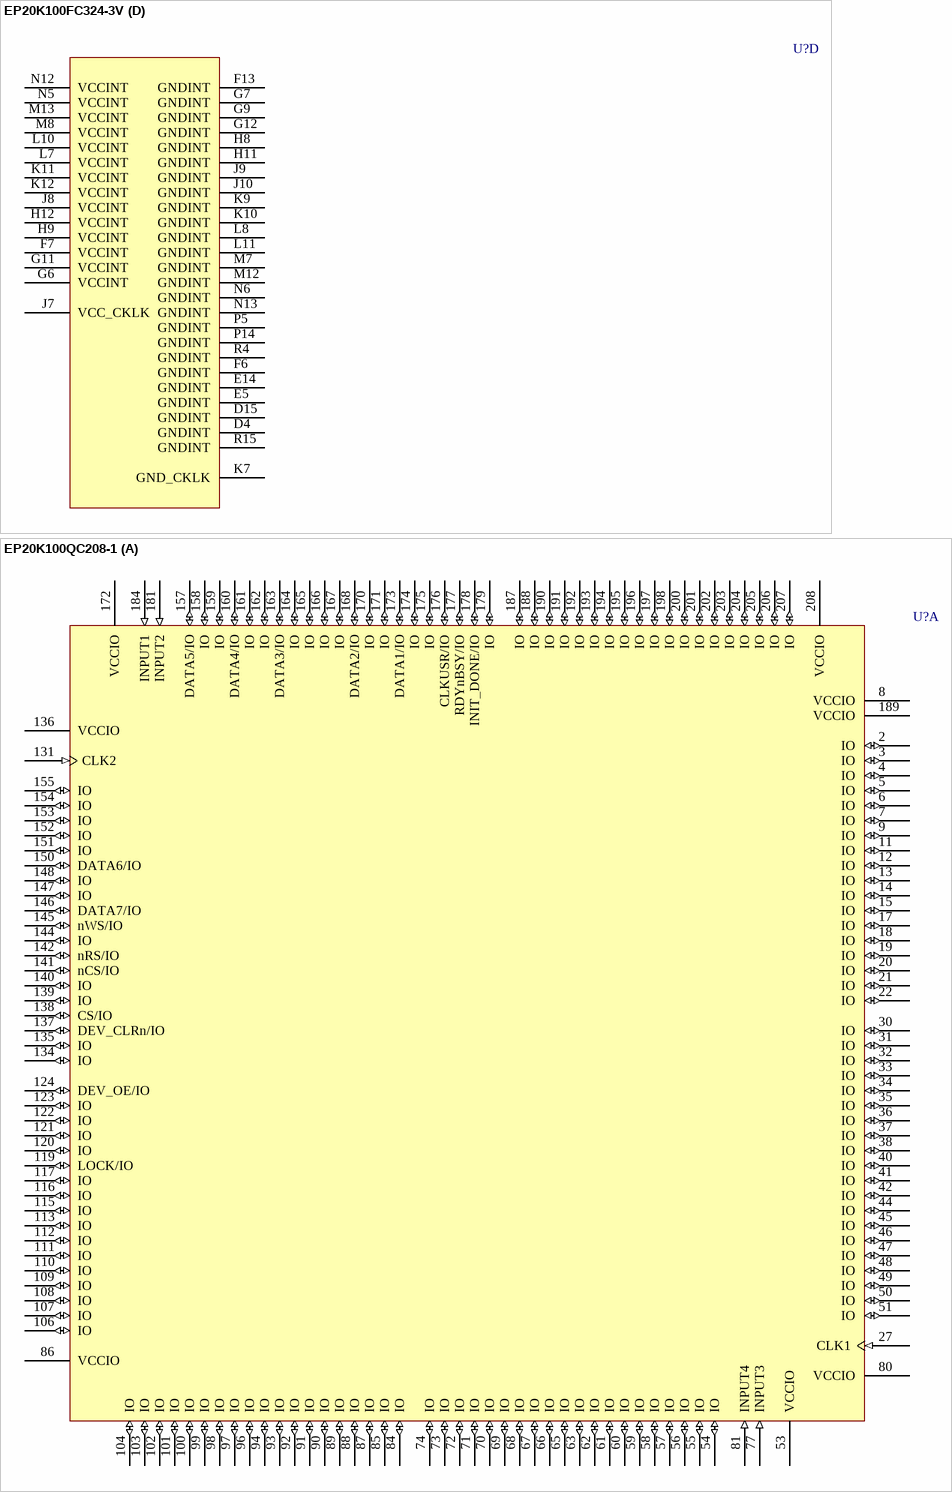
[diagram p22: symbols EP20K100FC324-3V to EP20K100QC208-1]

## EP20K100FC324-3V
designator U?
APEX 20K100  PLD with 5 V tolerant inputs, 324-Pin FBGA, Commercial Grade, Speed Grade 3; ComponentAvailability: Last order accepted - 22-Jul-2005; Published: 17-Jul-2002; LatestRevisionDate: 13-Apr-2006; LatestRevisionNote: IPC-7351 Footprint Added.; DatasheetVersion: ver5.1, Mar-2004; PackageVersion: ver16.0, Dec-2009; PackageReference: FBGA324; Publisher: Altium Limited; PackageDescription: 324-Ball FineLine Ball Grid Array (FBGA324) - Wire Bond; Code_JEDEC: MS-034-AAG-1; Code_IPC: BGA100P18X18-324; ComponentLink1Description: Manufacturer Link; ComponentLink1URL: http://www.altera.com/products/devices/apex/apx-index.html; ComponentLink2Description: Datasheet; ComponentLink2URL: http://www.altera.com/literature/ds/apex.pdf; ComponentLink3Description: Discontinuation Notice; ComponentLink3URL: http://www.altera.com/literature/pcn/pdn0401.pdf
footprint FBGA324 (BGA, 324-Leads, Body 19x19mm, Pitch 1mm)
3D model EP20K100-FBGA324 (324-Ball FineLine Ball Grid Array (FBGA324) - Wire Bond)
part A pins: A2 IO (io), A3 IO (io), A4 IO (io), A5 IO (io), A6 IO (io), A7 IO (io), A8 IO (io), A18 IO (io), B2 DATA5/IO (io), B3 IO (io), B4 IO (io), B5 IO (io), B6 DATA3/IO (io), B7 IO (io), B8 IO (io), B9 INPUT2 (in), B17 IO (io), B18 IO (io), C5 DATA4/IO (io), C6 IO (io), C7 IO (io), C8 IO (io), C16 IO (io), C17 IO (io), C18 IO (io), D6 IO (io), D7 IO (io), D8 IO (io), D9 IO (io), D10 INPUT1 (in), D16 IO (io), D17 IO (io), D18 IO (io), E6 VCCIO (power), E7 IO (io), E8 DATA2/IO (io), E9 IO (io), E10 RDYnBSY/IO (io), E11 INIT_DONE/IO (io), E16 IO (io), E17 IO (io), E18 IO (io), F8 IO (io), F9 DATA1/IO (io), F10 CLKUSR/IO (io), F15 IO (io), F16 IO (io), F17 IO (io), F18 IO (io), G1 IO (io), G3 IO (io), G5 IO (io), G8 VCCIO (power), G13 VCCIO (power), G14 IO (io), G15 IO (io), G16 IO (io), G17 IO (io), G18 IO (io), H1 IO (io), H2 IO (io), H3 IO (io), H4 IO (io), H13 IO (io), H14 IO (io), H17 IO (io), H18 IO (io), J11 VCCIO (power), J14 IO (io), J15 IO (io), J18 IO (io), K1 IO (io), K4 IO (io), K8 VCCIO (power), K18 IO (io), L1 IO (io), L4 DEV_OE/IO (io), L16 IO (io), L17 IO (io), L18 IO (io), M1 IO (io), M3 IO (io), M6 VCCIO (power), M10 IO (io), M11 VCCIO (power), M18 IO (io), N1 IO (io), N2 LOCK/IO (io), N3 IO (io), N4 IO (io), N10 IO (io), N11 IO (io), N18 IO (io), P1 IO (io), P2 IO (io), P3 IO (io), P10 IO (io), P11 IO (io), P12 IO (io), P13 VCCIO (power), R1 IO (io), R2 IO (io), R3 IO (io), R11 IO (io), R12 IO (io), R13 IO (io), R14 IO (io), R16 IO (io), T1 IO (io), T2 IO (io), T9 INPUT4 (in), T10 INPUT3 (in), T11 IO (io), T12 IO (io), T13 IO (io), T14 IO (io), T15 IO (io), T16 IO (io), U1 IO (io), U2 IO (io), U3 IO (io), U12 IO (io), U13 IO (io), U14 IO (io), U15 IO (io), U16 IO (io), V1 IO (io), V2 IO (io), V9 IO (io), V10 IO (io), V11 IO (io), V12 IO (io), V13 IO (io), V14 IO (io), V15 IO (io), V16 IO (io)
part B pins: A1 IO (io), A9 IO (io), A10 IO (io), A11 IO (io), A12 IO (io), A13 IO (io), A14 IO (io), A15 IO (io), A16 IO (io), A17 IO (io), B1 IO (io), B11 IO (io), B12 IO (io), B13 IO (io), B14 IO (io), B15 IO (io), B16 IO (io), C1 IO (io), C2 IO (io), C3 IO (io), C4 IO (io), C11 IO (io), C12 IO (io), C13 IO (io), C14 IO (io), C15 IO (io), D1 IO (io), D2 IO (io), D3 IO (io), D5 IO (io), D11 IO (io), D12 IO (io), D13 IO (io), D14 IO (io), E1 IO (io), E2 IO (io), E3 IO (io), E4 IO (io), E12 IO (io), E13 IO (io), E15 IO (io), F1 IO (io), F2 IO (io), F3 IO (io), F4 IO (io), F5 VCCIO (power), F11 IO (io), F12 VCCIO (power), F14 IO (io), G2 IO (io), G4 DATA6/IO (io), G10 IO (io), H5 nCS/IO (io), H6 DATA7/IO (io), H7 VCCIO (power), H10 VCCIO (power), H15 IO (io), H16 IO (io), J1 IO (io), J4 CLK2 (in), J5 IO (io), J6 nRS/IO (io), J12 IO (io), J13 IO (io), K5 nWS/IO (io), K6 IO (io), K13 IO (io), K14 IO (io), K15 IO (io), K16 CLK1 (in), L2 IO (io), L3 IO (io), L5 DEV_CLRn/IO (io), L6 IO (io), L9 VCCIO (power), L12 VCCIO (power), L13 IO (io), L14 IO (io), L15 IO (io), M2 CS/IO (io), M4 IO (io), M5 IO (io), M9 IO (io), M14 IO (io), M15 IO (io), M16 IO (io), M17 IO (io), N7 VCCIO (power), N8 IO (io), N9 IO (io), N14 VCCIO (power), N15 IO (io), N16 IO (io), N17 IO (io), P4 IO (io), P6 VCCIO (power), P7 IO (io), P8 IO (io), P9 IO (io), P15 IO (io), P16 IO (io), P17 IO (io), P18 IO (io), R5 IO (io), R6 IO (io), R7 IO (io), R8 IO (io), R9 IO (io), R10 IO (io), R17 IO (io), R18 IO (io), T3 IO (io), T4 IO (io), T5 IO (io), T6 IO (io), T7 IO (io), T8 IO (io), T17 IO (io), T18 IO (io), U4 IO (io), U5 IO (io), U6 IO (io), U7 IO (io), U17 IO (io), U18 IO (io), V3 IO (io), V4 IO (io), V5 IO (io), V6 IO (io), V7 IO (io), V8 IO (io), V17 IO (io), V18 IO (io)
part C pins: B10 TRST (in), C9 TDO (out), C10 nCEO (out), J2 DATA0 (in), J3 DCLK (in), J16 MSEL1 (in), J17 MSEL0 (in), K2 nCE (in), K3 TDI (in), K17 nCONFIG (in), U8 CONF_DONE (in), U9 nSTATUS (in), U10 TCK (in), U11 TMS (in)
part D pins: D4 GNDINT (power), D15 GNDINT (power), E5 GNDINT (power), E14 GNDINT (power), F6 GNDINT (power), F7 VCCINT (power), F13 GNDINT (power), G6 VCCINT (power), G7 GNDINT (power), G9 GNDINT (power), G11 VCCINT (power), G12 GNDINT (power), H8 GNDINT (power), H9 VCCINT (power), H11 GNDINT (power), H12 VCCINT (power), J7 VCC_CKLK (power), J8 VCCINT (power), J9 GNDINT (power), J10 GNDINT (power), K7 GND_CKLK (power), K9 GNDINT (power), K10 GNDINT (power), K11 VCCINT (power), K12 VCCINT (power), L7 VCCINT (power), L8 GNDINT (power), L10 VCCINT (power), L11 GNDINT (power), M7 GNDINT (power), M8 VCCINT (power), M12 GNDINT (power), M13 VCCINT (power), N5 VCCINT (power), N6 GNDINT (power), N12 VCCINT (power), N13 GNDINT (power), P5 GNDINT (power), P14 GNDINT (power), R4 GNDINT (power), R15 GNDINT (power)

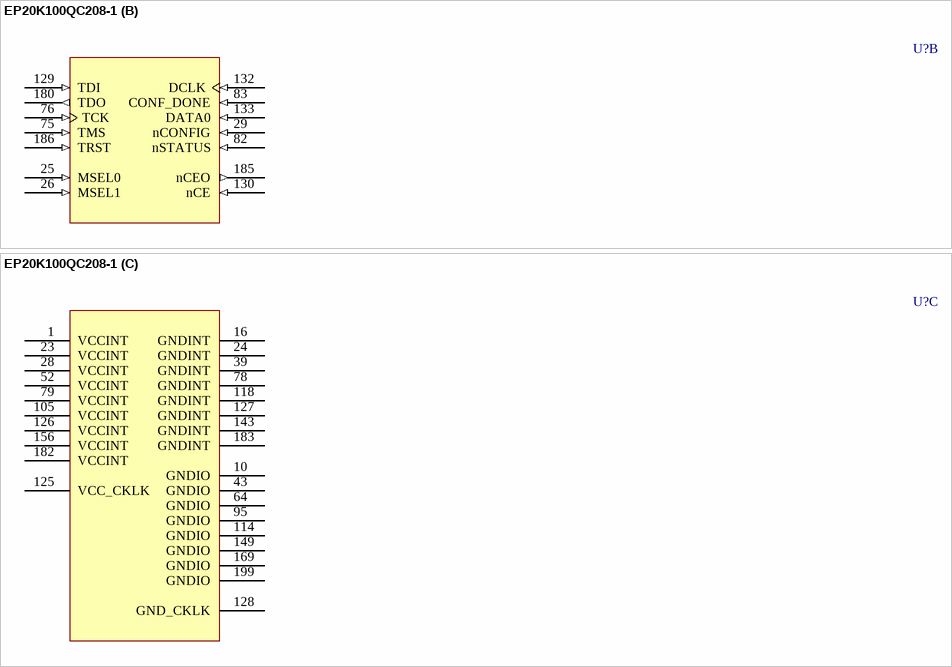
[diagram p23: symbol EP20K100QC208-1]

## EP20K100QC208-1
designator U?
APEX 20K100 PLD, 208-Pin PQFP, Commercial Grade, Speed Grade 1; Published: 17-Jul-2002; LatestRevisionDate: 13-Apr-2006; LatestRevisionNote: IPC-7351 Footprint Added.; DatasheetVersion: ver5.1, Mar-2004; PackageVersion: ver15.4, Dec-2008; PackageReference: PQFP208; Publisher: Altium Limited; PackageDescription: 208-Pin Plastic Quad Flat Pack (PQFP208) - Wire Bond; Code_JEDEC: MS-029-FA-1; ComponentLink1Description: Manufacturer Link; ComponentLink1URL: http://www.altera.com/products/devices/apex/apx-index.html; ComponentLink2Description: Datasheet; ComponentLink2URL: http://www.altera.com/literature/ds/apex.pdf
footprint PQFP208_N (Shrink QFP, 208-Leads, Body 28x28mm, Pitch 0.5mm, IPC Medium Density)
footprint PQFP208_L (Shrink QFP, 208-Leads, Body 28x28mm, Pitch 0.5mm, IPC High Density)
footprint PQFP208_M (Shrink QFP, 208-Leads, Body 28x28mm, Pitch 0.5mm, IPC Low Density)
3D model EP20K100-PQFP208 (208-Pin Plastic Quad Flat Pack (PQFP208) - Wire Bond)
part A pins: 2 IO (io), 3 IO (io), 4 IO (io), 5 IO (io), 6 IO (io), 7 IO (io), 8 VCCIO (power), 9 IO (io), 11 IO (io), 12 IO (io), 13 IO (io), 14 IO (io), 15 IO (io), 17 IO (io), 18 IO (io), 19 IO (io), 20 IO (io), 21 IO (io), 22 IO (io), 27 CLK1 (in), 30 IO (io), 31 IO (io), 32 IO (io), 33 IO (io), 34 IO (io), 35 IO (io), 36 IO (io), 37 IO (io), 38 IO (io), 40 IO (io), 41 IO (io), 42 IO (io), 44 IO (io), 45 IO (io), 46 IO (io), 47 IO (io), 48 IO (io), 49 IO (io), 50 IO (io), 51 IO (io), 53 VCCIO (power), 54 IO (io), 55 IO (io), 56 IO (io), 57 IO (io), 58 IO (io), 59 IO (io), 60 IO (io), 61 IO (io), 62 IO (io), 63 IO (io), 65 IO (io), 66 IO (io), 67 IO (io), 68 IO (io), 69 IO (io), 70 IO (io), 71 IO (io), 72 IO (io), 73 IO (io), 74 IO (io), 77 INPUT3 (in), 80 VCCIO (power), 81 INPUT4 (in), 84 IO (io), 85 IO (io), 86 VCCIO (power), 87 IO (io), 88 IO (io), 89 IO (io), 90 IO (io), 91 IO (io), 92 IO (io), 93 IO (io), 94 IO (io), 96 IO (io), 97 IO (io), 98 IO (io), 99 IO (io), 100 IO (io), 101 IO (io), 102 IO (io), 103 IO (io), 104 IO (io), 106 IO (io), 107 IO (io), 108 IO (io), 109 IO (io), 110 IO (io), 111 IO (io), 112 IO (io), 113 IO (io), 115 IO (io), 116 IO (io), 117 IO (io), 119 LOCK/IO (io), 120 IO (io), 121 IO (io), 122 IO (io), 123 IO (io), 124 DEV_OE/IO (io), 131 CLK2 (in), 134 IO (io), 135 IO (io), 136 VCCIO (power), 137 DEV_CLRn/IO (io), 138 CS/IO (io), 139 IO (io), 140 IO (io), 141 nCS/IO (io), 142 nRS/IO (io), 144 IO (io), 145 nWS/IO (io), 146 DATA7/IO (io), 147 IO (io), 148 IO (io), 150 DATA6/IO (io), 151 IO (io), 152 IO (io), 153 IO (io), 154 IO (io), 155 IO (io), 157 DATA5/IO (io), 158 IO (io), 159 IO (io), 160 DATA4/IO (io), 161 IO (io), 162 IO (io), 163 DATA3/IO (io), 164 IO (io), 165 IO (io), 166 IO (io), 167 IO (io), 168 DATA2/IO (io), 170 IO (io), 171 IO (io), 172 VCCIO (power), 173 DATA1/IO (io), 174 IO (io), 175 IO (io), 176 CLKUSR/IO (io), 177 RDYnBSY/IO (io), 178 INIT_DONE/IO (io), 179 IO (io), 181 INPUT2 (in), 184 INPUT1 (in), 187 IO (io), 188 IO (io), 189 VCCIO (power), 190 IO (io), 191 IO (io), 192 IO (io), 193 IO (io), 194 IO (io), 195 IO (io), 196 IO (io), 197 IO (io), 198 IO (io), 200 IO (io), 201 IO (io), 202 IO (io), 203 IO (io), 204 IO (io), 205 IO (io), 206 IO (io), 207 IO (io), 208 VCCIO (power)
part B pins: 25 MSEL0 (in), 26 MSEL1 (in), 29 nCONFIG (in), 75 TMS (in), 76 TCK (in), 82 nSTATUS (in), 83 CONF_DONE (in), 129 TDI (in), 130 nCE (in), 132 DCLK (in), 133 DATA0 (in), 180 TDO (out), 185 nCEO (out), 186 TRST (in)
part C pins: 1 VCCINT (power), 10 GNDIO (power), 16 GNDINT (power), 23 VCCINT (power), 24 GNDINT (power), 28 VCCINT (power), 39 GNDINT (power), 43 GNDIO (power), 52 VCCINT (power), 64 GNDIO (power), 78 GNDINT (power), 79 VCCINT (power), 95 GNDIO (power), 105 VCCINT (power), 114 GNDIO (power), 118 GNDINT (power), 125 VCC_CKLK (power), 126 VCCINT (power), 127 GNDINT (power), 128 GND_CKLK (power), 143 GNDINT (power), 149 GNDIO (power), 156 VCCINT (power), 169 GNDIO (power), 182 VCCINT (power), 183 GNDINT (power), 199 GNDIO (power)

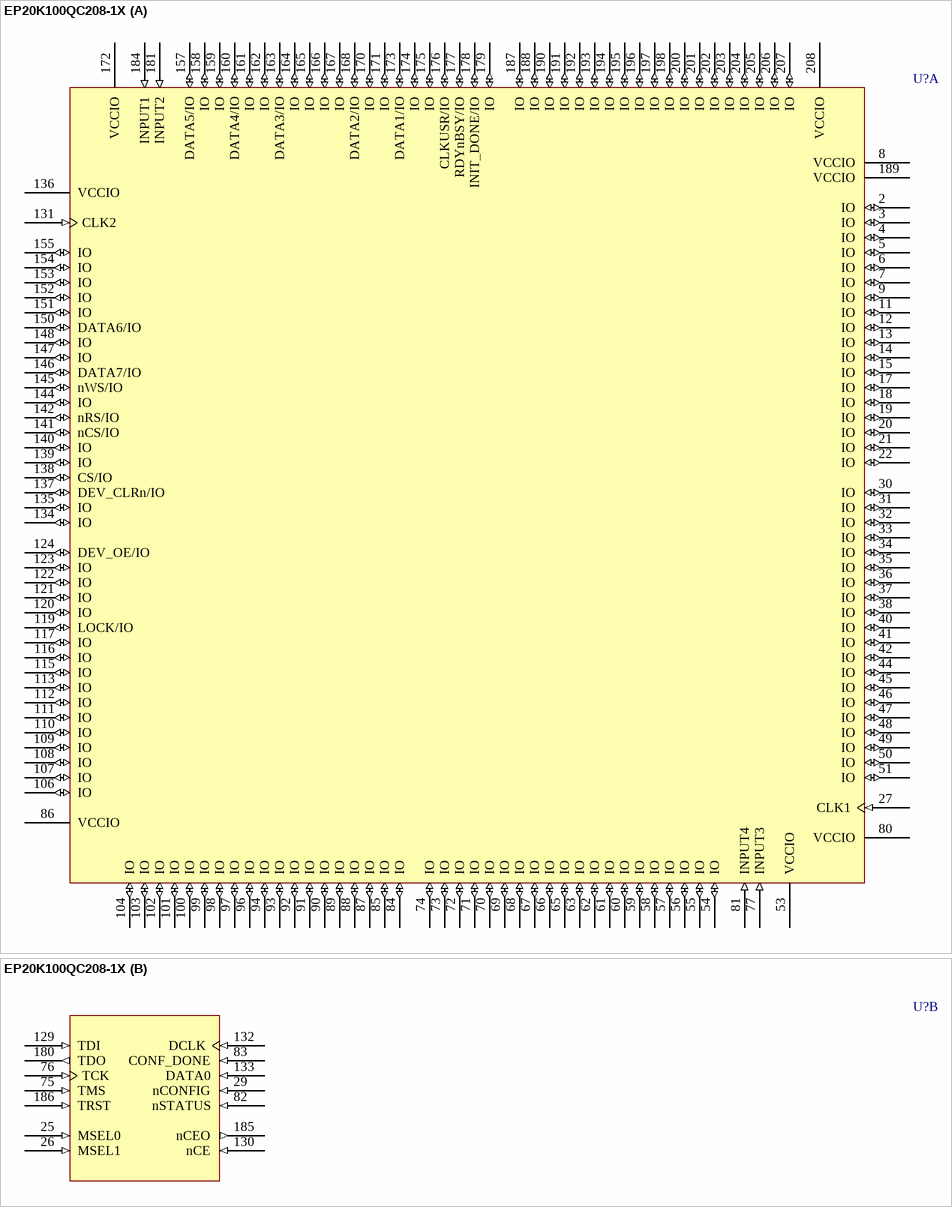
[diagram p24: symbol EP20K100QC208-1X]

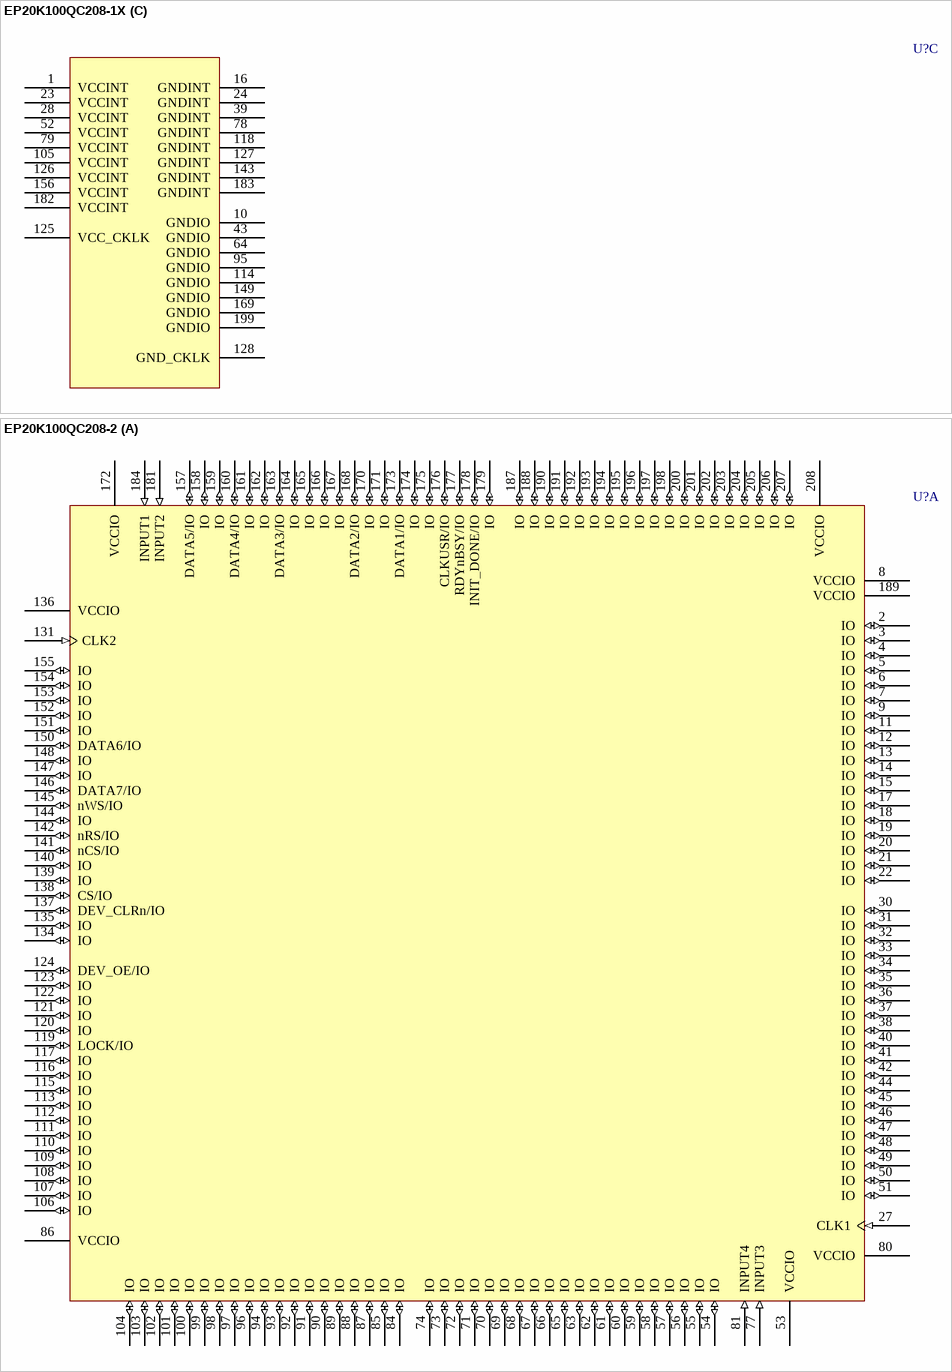
[diagram p25: symbols EP20K100QC208-1X to EP20K100QC208-2]

## EP20K100QC208-1X
designator U?
APEX 20K100 PLD with PLLs, 208-Pin PQFP, Commercial Grade, Speed Grade 1; Published: 17-Jul-2002; LatestRevisionDate: 13-Apr-2006; LatestRevisionNote: IPC-7351 Footprint Added.; DatasheetVersion: ver5.1, Mar-2004; PackageVersion: ver15.4, Dec-2008; PackageReference: PQFP208; Publisher: Altium Limited; PackageDescription: 208-Pin Plastic Quad Flat Pack (PQFP208) - Wire Bond; Code_JEDEC: MS-029-FA-1; ComponentLink1Description: Manufacturer Link; ComponentLink1URL: http://www.altera.com/products/devices/apex/apx-index.html; ComponentLink2Description: Datasheet; ComponentLink2URL: http://www.altera.com/literature/ds/apex.pdf
footprint PQFP208_N (Shrink QFP, 208-Leads, Body 28x28mm, Pitch 0.5mm, IPC Medium Density)
footprint PQFP208_L (Shrink QFP, 208-Leads, Body 28x28mm, Pitch 0.5mm, IPC High Density)
footprint PQFP208_M (Shrink QFP, 208-Leads, Body 28x28mm, Pitch 0.5mm, IPC Low Density)
3D model EP20K100-PQFP208 (208-Pin Plastic Quad Flat Pack (PQFP208) - Wire Bond)
part A pins: 2 IO (io), 3 IO (io), 4 IO (io), 5 IO (io), 6 IO (io), 7 IO (io), 8 VCCIO (power), 9 IO (io), 11 IO (io), 12 IO (io), 13 IO (io), 14 IO (io), 15 IO (io), 17 IO (io), 18 IO (io), 19 IO (io), 20 IO (io), 21 IO (io), 22 IO (io), 27 CLK1 (in), 30 IO (io), 31 IO (io), 32 IO (io), 33 IO (io), 34 IO (io), 35 IO (io), 36 IO (io), 37 IO (io), 38 IO (io), 40 IO (io), 41 IO (io), 42 IO (io), 44 IO (io), 45 IO (io), 46 IO (io), 47 IO (io), 48 IO (io), 49 IO (io), 50 IO (io), 51 IO (io), 53 VCCIO (power), 54 IO (io), 55 IO (io), 56 IO (io), 57 IO (io), 58 IO (io), 59 IO (io), 60 IO (io), 61 IO (io), 62 IO (io), 63 IO (io), 65 IO (io), 66 IO (io), 67 IO (io), 68 IO (io), 69 IO (io), 70 IO (io), 71 IO (io), 72 IO (io), 73 IO (io), 74 IO (io), 77 INPUT3 (in), 80 VCCIO (power), 81 INPUT4 (in), 84 IO (io), 85 IO (io), 86 VCCIO (power), 87 IO (io), 88 IO (io), 89 IO (io), 90 IO (io), 91 IO (io), 92 IO (io), 93 IO (io), 94 IO (io), 96 IO (io), 97 IO (io), 98 IO (io), 99 IO (io), 100 IO (io), 101 IO (io), 102 IO (io), 103 IO (io), 104 IO (io), 106 IO (io), 107 IO (io), 108 IO (io), 109 IO (io), 110 IO (io), 111 IO (io), 112 IO (io), 113 IO (io), 115 IO (io), 116 IO (io), 117 IO (io), 119 LOCK/IO (io), 120 IO (io), 121 IO (io), 122 IO (io), 123 IO (io), 124 DEV_OE/IO (io), 131 CLK2 (in), 134 IO (io), 135 IO (io), 136 VCCIO (power), 137 DEV_CLRn/IO (io), 138 CS/IO (io), 139 IO (io), 140 IO (io), 141 nCS/IO (io), 142 nRS/IO (io), 144 IO (io), 145 nWS/IO (io), 146 DATA7/IO (io), 147 IO (io), 148 IO (io), 150 DATA6/IO (io), 151 IO (io), 152 IO (io), 153 IO (io), 154 IO (io), 155 IO (io), 157 DATA5/IO (io), 158 IO (io), 159 IO (io), 160 DATA4/IO (io), 161 IO (io), 162 IO (io), 163 DATA3/IO (io), 164 IO (io), 165 IO (io), 166 IO (io), 167 IO (io), 168 DATA2/IO (io), 170 IO (io), 171 IO (io), 172 VCCIO (power), 173 DATA1/IO (io), 174 IO (io), 175 IO (io), 176 CLKUSR/IO (io), 177 RDYnBSY/IO (io), 178 INIT_DONE/IO (io), 179 IO (io), 181 INPUT2 (in), 184 INPUT1 (in), 187 IO (io), 188 IO (io), 189 VCCIO (power), 190 IO (io), 191 IO (io), 192 IO (io), 193 IO (io), 194 IO (io), 195 IO (io), 196 IO (io), 197 IO (io), 198 IO (io), 200 IO (io), 201 IO (io), 202 IO (io), 203 IO (io), 204 IO (io), 205 IO (io), 206 IO (io), 207 IO (io), 208 VCCIO (power)
part B pins: 25 MSEL0 (in), 26 MSEL1 (in), 29 nCONFIG (in), 75 TMS (in), 76 TCK (in), 82 nSTATUS (in), 83 CONF_DONE (in), 129 TDI (in), 130 nCE (in), 132 DCLK (in), 133 DATA0 (in), 180 TDO (out), 185 nCEO (out), 186 TRST (in)
part C pins: 1 VCCINT (power), 10 GNDIO (power), 16 GNDINT (power), 23 VCCINT (power), 24 GNDINT (power), 28 VCCINT (power), 39 GNDINT (power), 43 GNDIO (power), 52 VCCINT (power), 64 GNDIO (power), 78 GNDINT (power), 79 VCCINT (power), 95 GNDIO (power), 105 VCCINT (power), 114 GNDIO (power), 118 GNDINT (power), 125 VCC_CKLK (power), 126 VCCINT (power), 127 GNDINT (power), 128 GND_CKLK (power), 143 GNDINT (power), 149 GNDIO (power), 156 VCCINT (power), 169 GNDIO (power), 182 VCCINT (power), 183 GNDINT (power), 199 GNDIO (power)

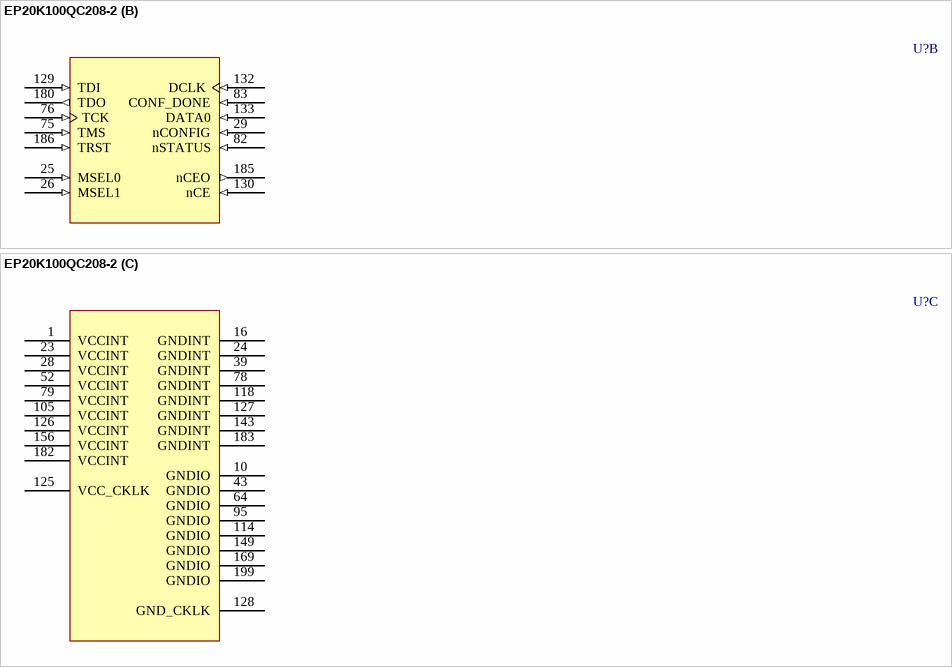
[diagram p26: symbol EP20K100QC208-2]

## EP20K100QC208-2
designator U?
APEX 20K100 PLD, 208-Pin PQFP, Commercial Grade, Speed Grade 2; Published: 17-Jul-2002; LatestRevisionDate: 13-Apr-2006; LatestRevisionNote: IPC-7351 Footprint Added.; DatasheetVersion: ver5.1, Mar-2004; PackageVersion: ver15.4, Dec-2008; PackageReference: PQFP208; Publisher: Altium Limited; PackageDescription: 208-Pin Plastic Quad Flat Pack (PQFP208) - Wire Bond; Code_JEDEC: MS-029-FA-1; ComponentLink1Description: Manufacturer Link; ComponentLink1URL: http://www.altera.com/products/devices/apex/apx-index.html; ComponentLink2Description: Datasheet; ComponentLink2URL: http://www.altera.com/literature/ds/apex.pdf
footprint PQFP208_N (Shrink QFP, 208-Leads, Body 28x28mm, Pitch 0.5mm, IPC Medium Density)
footprint PQFP208_L (Shrink QFP, 208-Leads, Body 28x28mm, Pitch 0.5mm, IPC High Density)
footprint PQFP208_M (Shrink QFP, 208-Leads, Body 28x28mm, Pitch 0.5mm, IPC Low Density)
3D model EP20K100-PQFP208 (208-Pin Plastic Quad Flat Pack (PQFP208) - Wire Bond)
part A pins: 2 IO (io), 3 IO (io), 4 IO (io), 5 IO (io), 6 IO (io), 7 IO (io), 8 VCCIO (power), 9 IO (io), 11 IO (io), 12 IO (io), 13 IO (io), 14 IO (io), 15 IO (io), 17 IO (io), 18 IO (io), 19 IO (io), 20 IO (io), 21 IO (io), 22 IO (io), 27 CLK1 (in), 30 IO (io), 31 IO (io), 32 IO (io), 33 IO (io), 34 IO (io), 35 IO (io), 36 IO (io), 37 IO (io), 38 IO (io), 40 IO (io), 41 IO (io), 42 IO (io), 44 IO (io), 45 IO (io), 46 IO (io), 47 IO (io), 48 IO (io), 49 IO (io), 50 IO (io), 51 IO (io), 53 VCCIO (power), 54 IO (io), 55 IO (io), 56 IO (io), 57 IO (io), 58 IO (io), 59 IO (io), 60 IO (io), 61 IO (io), 62 IO (io), 63 IO (io), 65 IO (io), 66 IO (io), 67 IO (io), 68 IO (io), 69 IO (io), 70 IO (io), 71 IO (io), 72 IO (io), 73 IO (io), 74 IO (io), 77 INPUT3 (in), 80 VCCIO (power), 81 INPUT4 (in), 84 IO (io), 85 IO (io), 86 VCCIO (power), 87 IO (io), 88 IO (io), 89 IO (io), 90 IO (io), 91 IO (io), 92 IO (io), 93 IO (io), 94 IO (io), 96 IO (io), 97 IO (io), 98 IO (io), 99 IO (io), 100 IO (io), 101 IO (io), 102 IO (io), 103 IO (io), 104 IO (io), 106 IO (io), 107 IO (io), 108 IO (io), 109 IO (io), 110 IO (io), 111 IO (io), 112 IO (io), 113 IO (io), 115 IO (io), 116 IO (io), 117 IO (io), 119 LOCK/IO (io), 120 IO (io), 121 IO (io), 122 IO (io), 123 IO (io), 124 DEV_OE/IO (io), 131 CLK2 (in), 134 IO (io), 135 IO (io), 136 VCCIO (power), 137 DEV_CLRn/IO (io), 138 CS/IO (io), 139 IO (io), 140 IO (io), 141 nCS/IO (io), 142 nRS/IO (io), 144 IO (io), 145 nWS/IO (io), 146 DATA7/IO (io), 147 IO (io), 148 IO (io), 150 DATA6/IO (io), 151 IO (io), 152 IO (io), 153 IO (io), 154 IO (io), 155 IO (io), 157 DATA5/IO (io), 158 IO (io), 159 IO (io), 160 DATA4/IO (io), 161 IO (io), 162 IO (io), 163 DATA3/IO (io), 164 IO (io), 165 IO (io), 166 IO (io), 167 IO (io), 168 DATA2/IO (io), 170 IO (io), 171 IO (io), 172 VCCIO (power), 173 DATA1/IO (io), 174 IO (io), 175 IO (io), 176 CLKUSR/IO (io), 177 RDYnBSY/IO (io), 178 INIT_DONE/IO (io), 179 IO (io), 181 INPUT2 (in), 184 INPUT1 (in), 187 IO (io), 188 IO (io), 189 VCCIO (power), 190 IO (io), 191 IO (io), 192 IO (io), 193 IO (io), 194 IO (io), 195 IO (io), 196 IO (io), 197 IO (io), 198 IO (io), 200 IO (io), 201 IO (io), 202 IO (io), 203 IO (io), 204 IO (io), 205 IO (io), 206 IO (io), 207 IO (io), 208 VCCIO (power)
part B pins: 25 MSEL0 (in), 26 MSEL1 (in), 29 nCONFIG (in), 75 TMS (in), 76 TCK (in), 82 nSTATUS (in), 83 CONF_DONE (in), 129 TDI (in), 130 nCE (in), 132 DCLK (in), 133 DATA0 (in), 180 TDO (out), 185 nCEO (out), 186 TRST (in)
part C pins: 1 VCCINT (power), 10 GNDIO (power), 16 GNDINT (power), 23 VCCINT (power), 24 GNDINT (power), 28 VCCINT (power), 39 GNDINT (power), 43 GNDIO (power), 52 VCCINT (power), 64 GNDIO (power), 78 GNDINT (power), 79 VCCINT (power), 95 GNDIO (power), 105 VCCINT (power), 114 GNDIO (power), 118 GNDINT (power), 125 VCC_CKLK (power), 126 VCCINT (power), 127 GNDINT (power), 128 GND_CKLK (power), 143 GNDINT (power), 149 GNDIO (power), 156 VCCINT (power), 169 GNDIO (power), 182 VCCINT (power), 183 GNDINT (power), 199 GNDIO (power)

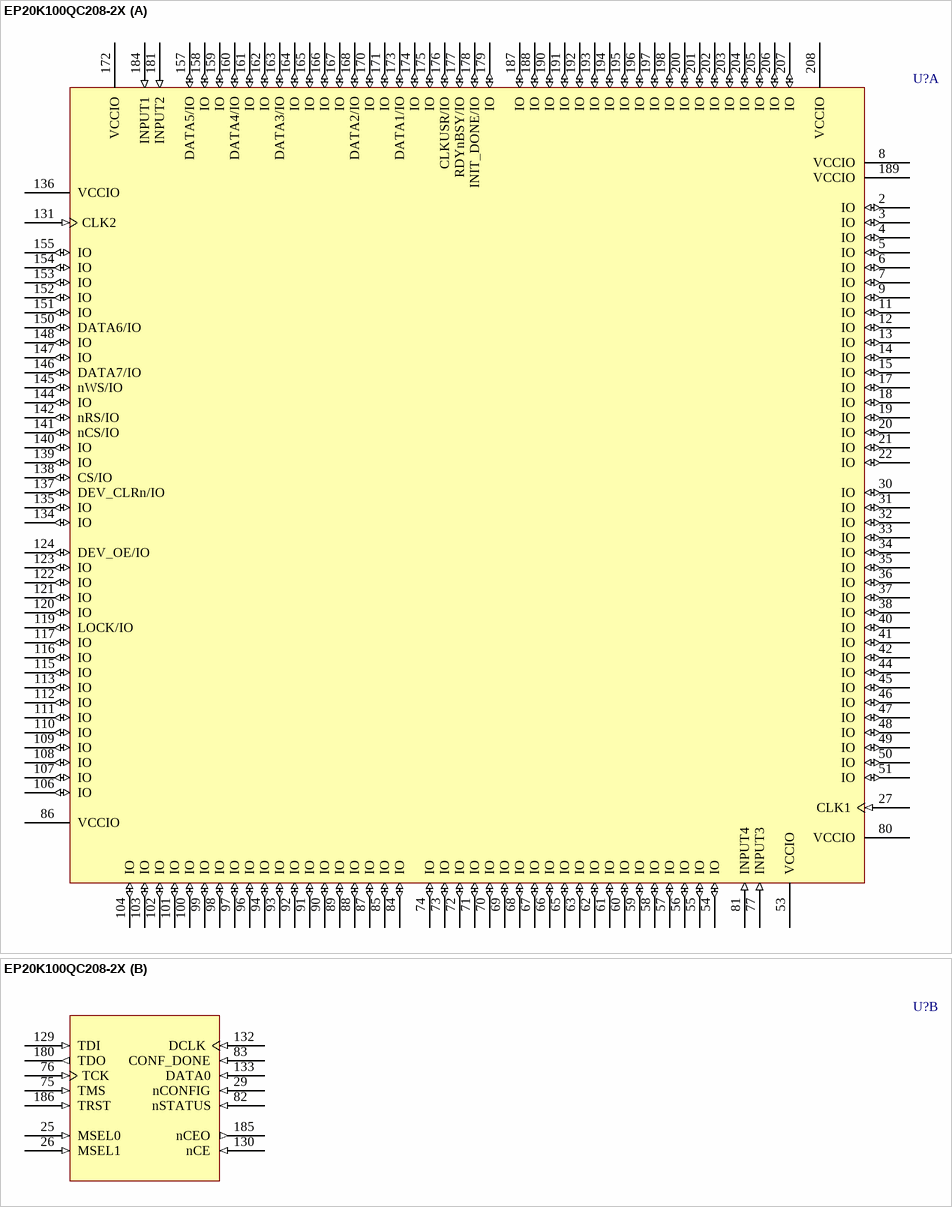
[diagram p27: symbol EP20K100QC208-2X]

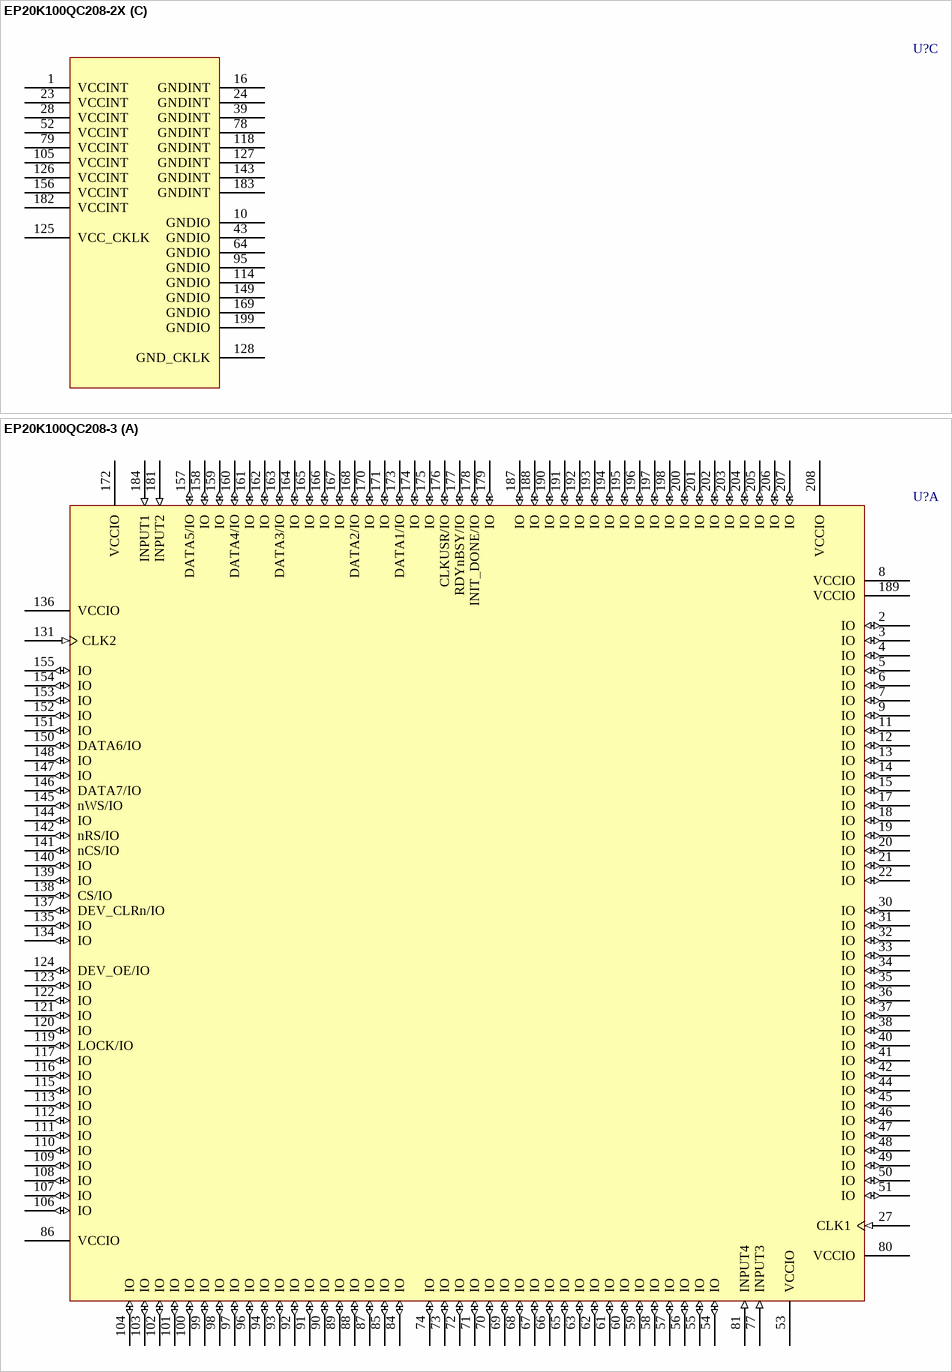
[diagram p28: symbols EP20K100QC208-2X to EP20K100QC208-3]